# Altium schematic symbol library MCU_Microchip_SAMD.SchLib: 87 symbols (part 1 of 2)
Pins are listed as number, name and electrical type; pins without a type are passive.

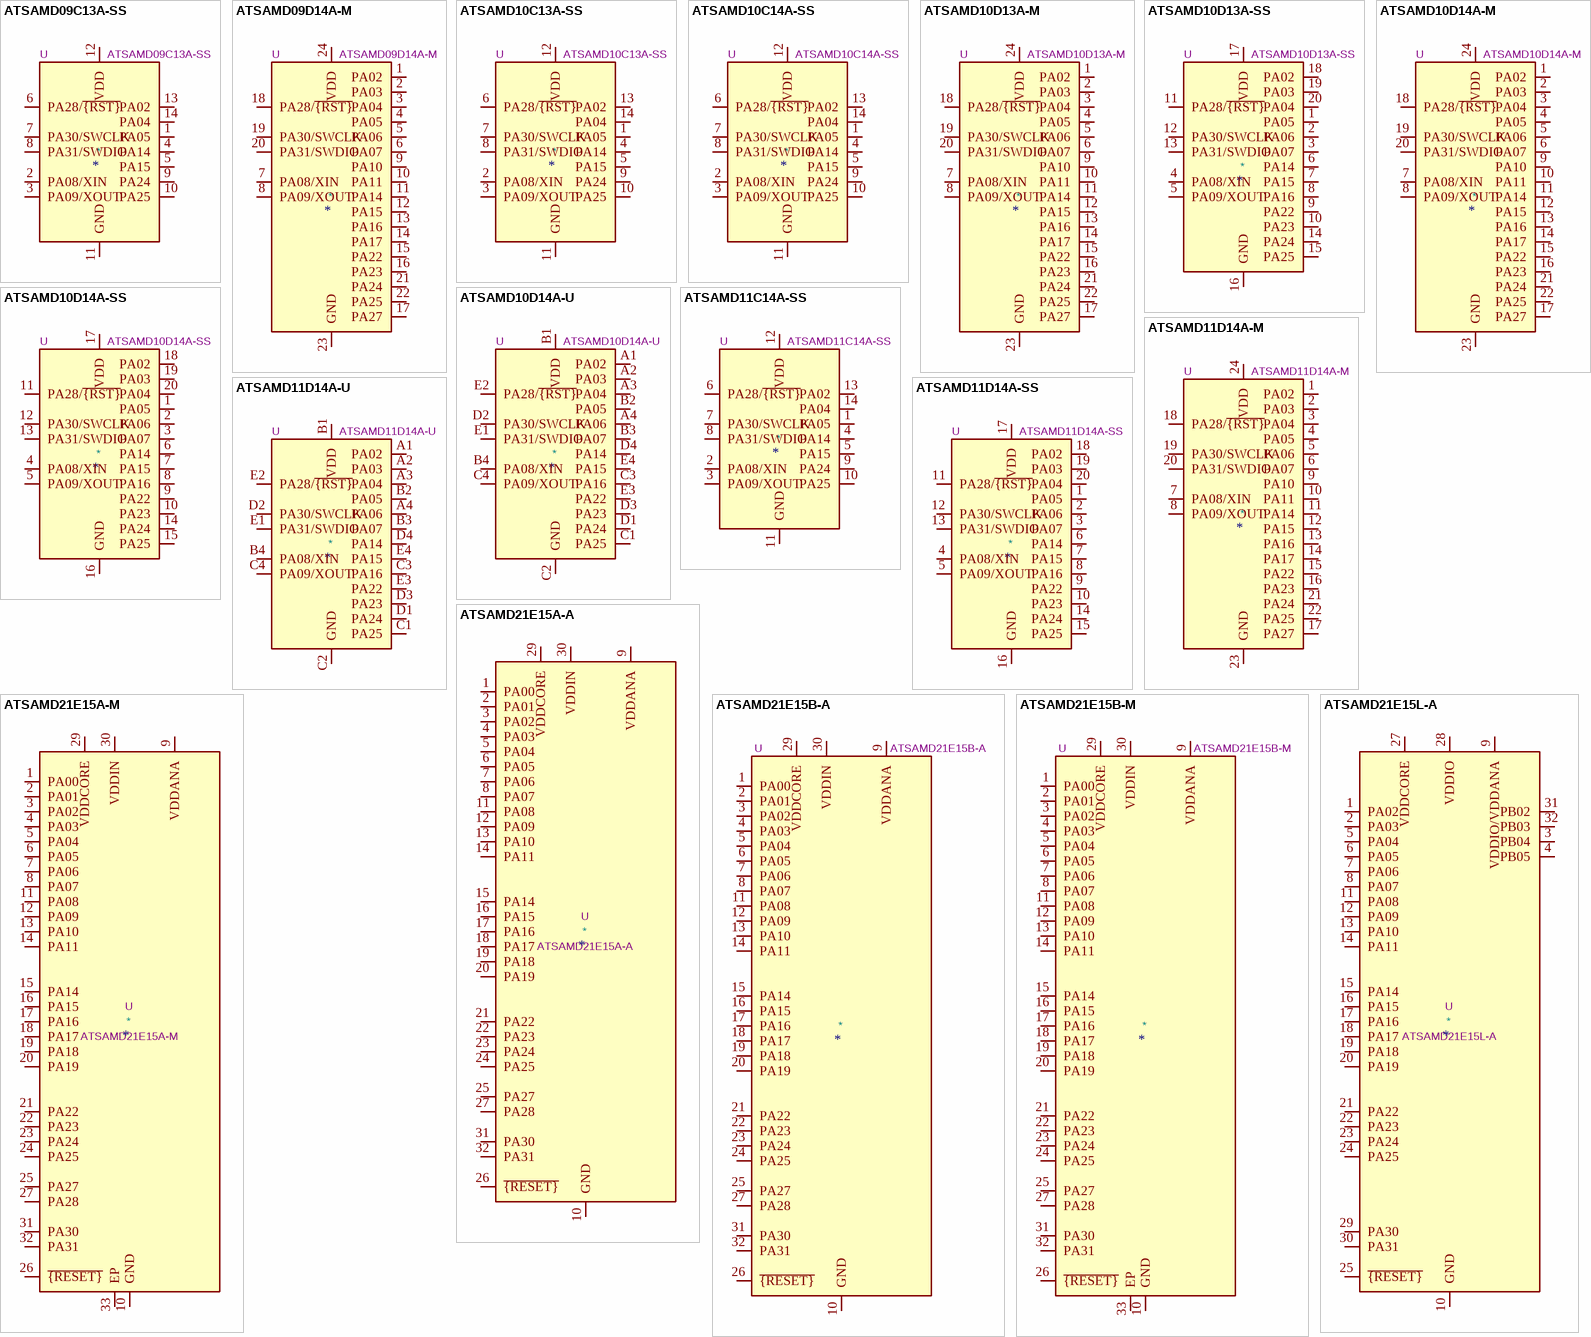
[diagram p0: symbols ATSAMD09C13A-SS to ATSAMD21E15L-A]

## ATSAMD09C13A-SS
designator *  value ATSAMD09C13A-SS  Reference: U
ki_keywords: 32-bit ARM Cortex-M0+ MCU Microcontroller; ki_description: ARM Cortex-M0+ MCU, 48MHz, 8KB Flash, 4KB RAM, 2.4-3.6V, 12 GPIO, SOIC-14; ki_fp_filters: SOIC*3.9x8.7mm*P1.27mm*; Footprint: Package_SO:SOIC-14_3.9x8.7mm_P1.27mm; Datasheet: http://ww1.microchip.com/downloads/en/DeviceDoc/Atmel-42414-SAM-D09_Datasheet.pdf
pins: 1 PA05, 2 PA08/XIN, 3 PA09/XOUT, 4 PA14, 5 PA15, 6 PA28/~{{RST}}, 7 PA30/SWCLK, 8 PA31/SWDIO, 9 PA24, 10 PA25, 11 GND, 12 VDD, 13 PA02, 14 PA04

## ATSAMD09D14A-M
designator *  value ATSAMD09D14A-M  Reference: U
ki_keywords: 32-bit ARM Cortex-M0+ MCU Microcontroller; ki_description: ARM Cortex-M0+ MCU, 48MHz, 16KB Flash, 4KB RAM, 2.4-3.6V, 22 GPIO, QFN-24; ki_fp_filters: QFN*1EP*4x4mm*P0.5mm*; Footprint: Package_DFN_QFN:QFN-24-1EP_4x4mm_P0.5mm_EP2.6x2.6mm; Datasheet: http://ww1.microchip.com/downloads/en/DeviceDoc/Atmel-42414-SAM-D09_Datasheet.pdf
pins: 1 PA02, 2 PA03, 3 PA04, 4 PA05, 5 PA06, 6 PA07, 7 PA08/XIN, 8 PA09/XOUT, 9 PA10, 10 PA11, 11 PA14, 12 PA15, 13 PA16, 14 PA17, 15 PA22, 16 PA23, 17 PA27, 18 PA28/~{{RST}}, 19 PA30/SWCLK, 20 PA31/SWDIO, 21 PA24, 22 PA25, 23 GND, 24 VDD

## ATSAMD10C13A-SS
designator *  value ATSAMD10C13A-SS  Reference: U
ki_keywords: 32-bit ARM Cortex-M0+ MCU Microcontroller; ki_description: ARM Cortex-M0+ MCU, 48MHz, 8KB Flash, 4KB RAM, 1.6-3.6V, 12 GPIO, SOIC-14; ki_fp_filters: SOIC*3.9x8.7mm*P1.27mm*; Footprint: Package_SO:SOIC-14_3.9x8.7mm_P1.27mm; Datasheet: http://ww1.microchip.com/downloads/en/DeviceDoc/Atmel-42242-SAM-D10_Datasheet.pdf
pins: 1 PA05, 2 PA08/XIN, 3 PA09/XOUT, 4 PA14, 5 PA15, 6 PA28/~{{RST}}, 7 PA30/SWCLK, 8 PA31/SWDIO, 9 PA24, 10 PA25, 11 GND, 12 VDD, 13 PA02, 14 PA04

## ATSAMD10C14A-SS
designator *  value ATSAMD10C14A-SS  Reference: U
ki_keywords: 32-bit ARM Cortex-M0+ MCU Microcontroller; ki_description: ARM Cortex-M0+ MCU, 48MHz, 16KB Flash, 4KB RAM, 1.6-3.6V, 12 GPIO, SOIC-14; ki_fp_filters: SOIC*3.9x8.7mm*P1.27mm*; Footprint: Package_SO:SOIC-14_3.9x8.7mm_P1.27mm; Datasheet: http://ww1.microchip.com/downloads/en/DeviceDoc/Atmel-42242-SAM-D10_Datasheet.pdf
pins: 1 PA05, 2 PA08/XIN, 3 PA09/XOUT, 4 PA14, 5 PA15, 6 PA28/~{{RST}}, 7 PA30/SWCLK, 8 PA31/SWDIO, 9 PA24, 10 PA25, 11 GND, 12 VDD, 13 PA02, 14 PA04

## ATSAMD10D13A-M
designator *  value ATSAMD10D13A-M  Reference: U
ki_keywords: 32-bit ARM Cortex-M0+ MCU Microcontroller; ki_description: ARM Cortex-M0+ MCU, 48MHz, 8KB Flash, 4KB RAM, 1.6-3.6V, 22 GPIO, QFN-24; ki_fp_filters: QFN*1EP*4x4mm*P0.5mm*; Footprint: Package_DFN_QFN:QFN-24-1EP_4x4mm_P0.5mm_EP2.6x2.6mm; Datasheet: http://ww1.microchip.com/downloads/en/DeviceDoc/Atmel-42242-SAM-D10_Datasheet.pdf
pins: 1 PA02, 2 PA03, 3 PA04, 4 PA05, 5 PA06, 6 PA07, 7 PA08/XIN, 8 PA09/XOUT, 9 PA10, 10 PA11, 11 PA14, 12 PA15, 13 PA16, 14 PA17, 15 PA22, 16 PA23, 17 PA27, 18 PA28/~{{RST}}, 19 PA30/SWCLK, 20 PA31/SWDIO, 21 PA24, 22 PA25, 23 GND, 24 VDD

## ATSAMD10D13A-SS
designator *  value ATSAMD10D13A-SS  Reference: U
ki_keywords: 32-bit ARM Cortex-M0+ MCU Microcontroller; ki_description: ARM Cortex-M0+ MCU, 48MHz, 8KB Flash, 4KB RAM, 1.6-3.6V, 18 GPIO, SOIC-20; ki_fp_filters: SOIC*7.5x12.8mm*P1.27mm*; Footprint: Package_SO:SOIC-20W_7.5x12.8mm_P1.27mm; Datasheet: http://ww1.microchip.com/downloads/en/DeviceDoc/Atmel-42242-SAM-D10_Datasheet.pdf
pins: 1 PA05, 2 PA06, 3 PA07, 4 PA08/XIN, 5 PA09/XOUT, 6 PA14, 7 PA15, 8 PA16, 9 PA22, 10 PA23, 11 PA28/~{{RST}}, 12 PA30/SWCLK, 13 PA31/SWDIO, 14 PA24, 15 PA25, 16 GND, 17 VDD, 18 PA02, 19 PA03, 20 PA04

## ATSAMD10D14A-M
designator *  value ATSAMD10D14A-M  Reference: U
ki_keywords: 32-bit ARM Cortex-M0+ MCU Microcontroller; ki_description: ARM Cortex-M0+ MCU, 48MHz, 16KB Flash, 4KB RAM, 1.6-3.6V, 22 GPIO, QFN-24; ki_fp_filters: QFN*1EP*4x4mm*P0.5mm*; Footprint: Package_DFN_QFN:QFN-24-1EP_4x4mm_P0.5mm_EP2.6x2.6mm; Datasheet: http://ww1.microchip.com/downloads/en/DeviceDoc/Atmel-42242-SAM-D10_Datasheet.pdf
pins: 1 PA02, 2 PA03, 3 PA04, 4 PA05, 5 PA06, 6 PA07, 7 PA08/XIN, 8 PA09/XOUT, 9 PA10, 10 PA11, 11 PA14, 12 PA15, 13 PA16, 14 PA17, 15 PA22, 16 PA23, 17 PA27, 18 PA28/~{{RST}}, 19 PA30/SWCLK, 20 PA31/SWDIO, 21 PA24, 22 PA25, 23 GND, 24 VDD

## ATSAMD10D14A-SS
designator *  value ATSAMD10D14A-SS  Reference: U
ki_keywords: 32-bit ARM Cortex-M0+ MCU Microcontroller; ki_description: ARM Cortex-M0+ MCU, 48MHz, 16KB Flash, 4KB RAM, 1.6-3.6V, 18 GPIO, SOIC-20; ki_fp_filters: SOIC*7.5x12.8mm*P1.27mm*; Footprint: Package_SO:SOIC-20W_7.5x12.8mm_P1.27mm; Datasheet: http://ww1.microchip.com/downloads/en/DeviceDoc/Atmel-42242-SAM-D10_Datasheet.pdf
pins: 1 PA05, 2 PA06, 3 PA07, 4 PA08/XIN, 5 PA09/XOUT, 6 PA14, 7 PA15, 8 PA16, 9 PA22, 10 PA23, 11 PA28/~{{RST}}, 12 PA30/SWCLK, 13 PA31/SWDIO, 14 PA24, 15 PA25, 16 GND, 17 VDD, 18 PA02, 19 PA03, 20 PA04

## ATSAMD10D14A-U
designator *  value ATSAMD10D14A-U  Reference: U
ki_keywords: 32-bit ARM Cortex-M0+ MCU Microcontroller; ki_description: ARM Cortex-M0+ MCU, 48MHz, 16KB Flash, 4KB RAM, 1.6-3.6V, 18 GPIO, WLCSP-20; ki_fp_filters: WLCSP*1.934x2.434mm*Layout4x5*P0.4mm*; Footprint: Package_CSP:WLCSP-20_1.934x2.434mm_Layout4x5_P0.4mm; Datasheet: http://ww1.microchip.com/downloads/en/DeviceDoc/Atmel-42242-SAM-D10_Datasheet.pdf
pins: A1 PA02, A2 PA03, A3 PA04, A4 PA06, B1 VDD, B2 PA05, B3 PA07, B4 PA08/XIN, C1 PA25, C2 GND, C3 PA16, C4 PA09/XOUT, D1 PA24, D2 PA30/SWCLK, D3 PA23, D4 PA14, E1 PA31/SWDIO, E2 PA28/~{{RST}}, E3 PA22, E4 PA15

## ATSAMD11C14A-SS
designator *  value ATSAMD11C14A-SS  Reference: U
ki_keywords: 32-bit ARM Cortex-M0+ MCU Microcontroller; ki_description: ARM Cortex-M0+ MCU, 48MHz, 16KB Flash, 4KB RAM, 1.6-3.6V, 18 GPIO, SOIC-14; ki_fp_filters: SOIC*3.9x8.7mm*P1.27mm*; Footprint: Package_SO:SOIC-14_3.9x8.7mm_P1.27mm; Datasheet: http://ww1.microchip.com/downloads/en/DeviceDoc/Atmel-42363-SAM-D11_Datasheet.pdf
pins: 1 PA05, 2 PA08/XIN, 3 PA09/XOUT, 4 PA14, 5 PA15, 6 PA28/~{{RST}}, 7 PA30/SWCLK, 8 PA31/SWDIO, 9 PA24, 10 PA25, 11 GND, 12 VDD, 13 PA02, 14 PA04

## ATSAMD11D14A-M
designator *  value ATSAMD11D14A-M  Reference: U
ki_keywords: 32-bit ARM Cortex-M0+ MCU Microcontroller; ki_description: ARM Cortex-M0+ MCU, 48MHz, 16KB Flash, 4KB RAM, 1.6-3.6V, 22 GPIO, QFN-24; ki_fp_filters: QFN*1EP*4x4mm*P0.5mm*; Footprint: Package_DFN_QFN:QFN-24-1EP_4x4mm_P0.5mm_EP2.6x2.6mm; Datasheet: http://ww1.microchip.com/downloads/en/DeviceDoc/Atmel-42363-SAM-D11_Datasheet.pdf
pins: 1 PA02, 2 PA03, 3 PA04, 4 PA05, 5 PA06, 6 PA07, 7 PA08/XIN, 8 PA09/XOUT, 9 PA10, 10 PA11, 11 PA14, 12 PA15, 13 PA16, 14 PA17, 15 PA22, 16 PA23, 17 PA27, 18 PA28/~{{RST}}, 19 PA30/SWCLK, 20 PA31/SWDIO, 21 PA24, 22 PA25, 23 GND, 24 VDD

## ATSAMD11D14A-SS
designator *  value ATSAMD11D14A-SS  Reference: U
ki_keywords: 32-bit ARM Cortex-M0+ MCU Microcontroller; ki_description: ARM Cortex-M0+ MCU, 48MHz, 16KB Flash, 4KB RAM, 1.6-3.6V, 18 GPIO, SOIC-20; ki_fp_filters: SOIC*7.5x12.8mm*P1.27mm*; Footprint: Package_SO:SOIC-20W_7.5x12.8mm_P1.27mm; Datasheet: http://ww1.microchip.com/downloads/en/DeviceDoc/Atmel-42363-SAM-D11_Datasheet.pdf
pins: 1 PA05, 2 PA06, 3 PA07, 4 PA08/XIN, 5 PA09/XOUT, 6 PA14, 7 PA15, 8 PA16, 9 PA22, 10 PA23, 11 PA28/~{{RST}}, 12 PA30/SWCLK, 13 PA31/SWDIO, 14 PA24, 15 PA25, 16 GND, 17 VDD, 18 PA02, 19 PA03, 20 PA04

## ATSAMD11D14A-U
designator *  value ATSAMD11D14A-U  Reference: U
ki_keywords: 32-bit ARM Cortex-M0+ MCU Microcontroller; ki_description: ARM Cortex-M0+ MCU, 48MHz, 16KB Flash, 4KB RAM, 1.6-3.6V, 18 GPIO, WLCSP-20; ki_fp_filters: WLCSP*1.934x2.434mm*Layout4x5*P0.4mm*; Footprint: Package_CSP:WLCSP-20_1.934x2.434mm_Layout4x5_P0.4mm; Datasheet: http://ww1.microchip.com/downloads/en/DeviceDoc/Atmel-42363-SAM-D11_Datasheet.pdf
pins: A1 PA02, A2 PA03, A3 PA04, A4 PA06, B1 VDD, B2 PA05, B3 PA07, B4 PA08/XIN, C1 PA25, C2 GND, C3 PA16, C4 PA09/XOUT, D1 PA24, D2 PA30/SWCLK, D3 PA23, D4 PA14, E1 PA31/SWDIO, E2 PA28/~{{RST}}, E3 PA22, E4 PA15

## ATSAMD21E15A-A
designator *  value ATSAMD21E15A-A  Reference: U
ki_keywords: 32-bit ARM Cortex-M0+ MCU Microcontroller; ki_description: SAM D21 Microchip SMART ARM-based Flash MCU, 48Mhz, 32K Flash, 4K SRAM, TQFP-32; ki_fp_filters: TQFP*7x7mm*P0.8mm*; Footprint: Package_QFP:TQFP-32_7x7mm_P0.8mm; Datasheet: http://ww1.microchip.com/downloads/en/DeviceDoc/SAM_D21_DA1_Family_Data%20Sheet_DS40001882E.pdf
pins: 1 PA00, 2 PA01, 3 PA02, 4 PA03, 5 PA04, 6 PA05, 7 PA06, 8 PA07, 9 VDDANA, 10 GND, 11 PA08, 12 PA09, 13 PA10, 14 PA11, 15 PA14, 16 PA15, 17 PA16, 18 PA17, 19 PA18, 20 PA19, 21 PA22, 22 PA23, 23 PA24, 24 PA25, 25 PA27, 26 ~{{RESET}}, 27 PA28, 28 GND hidden, 29 VDDCORE, 30 VDDIN, 31 PA30, 32 PA31

## ATSAMD21E15A-M
designator *  value ATSAMD21E15A-M  Reference: U
ki_keywords: 32-bit ARM Cortex-M0+ MCU Microcontroller; ki_description: SAM D21 Microchip SMART ARM-based Flash MCU, 48Mhz, 32K Flash, 4K SRAM, QFN-32; ki_fp_filters: QFN*5x5mm*P0.5mm*; Footprint: Package_DFN_QFN:QFN-32-1EP_5x5mm_P0.5mm_EP3.6x3.6mm; Datasheet: http://ww1.microchip.com/downloads/en/DeviceDoc/SAM_D21_DA1_Family_Data%20Sheet_DS40001882E.pdf
pins: 1 PA00, 2 PA01, 3 PA02, 4 PA03, 5 PA04, 6 PA05, 7 PA06, 8 PA07, 9 VDDANA, 10 GND, 11 PA08, 12 PA09, 13 PA10, 14 PA11, 15 PA14, 16 PA15, 17 PA16, 18 PA17, 19 PA18, 20 PA19, 21 PA22, 22 PA23, 23 PA24, 24 PA25, 25 PA27, 26 ~{{RESET}}, 27 PA28, 28 GND hidden, 29 VDDCORE, 30 VDDIN, 31 PA30, 32 PA31, 33 EP

## ATSAMD21E15B-A
designator *  value ATSAMD21E15B-A  Reference: U
ki_keywords: 32-bit ARM Cortex-M0+ MCU Microcontroller; ki_description: SAM D21 Microchip SMART ARM-based Flash MCU, 48Mhz, 32K Flash w/ 1K RWW, 4K SRAM, TQFP-32; ki_fp_filters: TQFP*7x7mm*P0.8mm*; Footprint: Package_QFP:TQFP-32_7x7mm_P0.8mm; Datasheet: http://ww1.microchip.com/downloads/en/DeviceDoc/SAM_D21_DA1_Family_Data%20Sheet_DS40001882E.pdf
pins: 1 PA00, 2 PA01, 3 PA02, 4 PA03, 5 PA04, 6 PA05, 7 PA06, 8 PA07, 9 VDDANA, 10 GND, 11 PA08, 12 PA09, 13 PA10, 14 PA11, 15 PA14, 16 PA15, 17 PA16, 18 PA17, 19 PA18, 20 PA19, 21 PA22, 22 PA23, 23 PA24, 24 PA25, 25 PA27, 26 ~{{RESET}}, 27 PA28, 28 GND hidden, 29 VDDCORE, 30 VDDIN, 31 PA30, 32 PA31

## ATSAMD21E15B-M
designator *  value ATSAMD21E15B-M  Reference: U
ki_keywords: 32-bit ARM Cortex-M0+ MCU Microcontroller; ki_description: SAM D21 Microchip SMART ARM-based Flash MCU, 48Mhz, 32K Flash w/ 1K RWW, 4K SRAM, QFN-32; ki_fp_filters: QFN*5x5mm*P0.5mm*; Footprint: Package_DFN_QFN:QFN-32-1EP_5x5mm_P0.5mm_EP3.6x3.6mm; Datasheet: http://ww1.microchip.com/downloads/en/DeviceDoc/SAM_D21_DA1_Family_Data%20Sheet_DS40001882E.pdf
pins: 1 PA00, 2 PA01, 3 PA02, 4 PA03, 5 PA04, 6 PA05, 7 PA06, 8 PA07, 9 VDDANA, 10 GND, 11 PA08, 12 PA09, 13 PA10, 14 PA11, 15 PA14, 16 PA15, 17 PA16, 18 PA17, 19 PA18, 20 PA19, 21 PA22, 22 PA23, 23 PA24, 24 PA25, 25 PA27, 26 ~{{RESET}}, 27 PA28, 28 GND hidden, 29 VDDCORE, 30 VDDIN, 31 PA30, 32 PA31, 33 EP

## ATSAMD21E15L-A
designator *  value ATSAMD21E15L-A  Reference: U
ki_keywords: 32-bit ARM Cortex-M0+ MCU Microcontroller; ki_description: SAM D21 Microchip SMART ARM-based Flash MCU, 48Mhz, 32K Flash w/ 1K RWW, 4K SRAM, Pinout Optimized for Analog & PWM, TQFP-32; ki_fp_filters: TQFP*7x7mm*P0.8mm*; Footprint: Package_QFP:TQFP-32_7x7mm_P0.8mm; Datasheet: http://ww1.microchip.com/downloads/en/DeviceDoc/SAM_D21_DA1_Family_Data%20Sheet_DS40001882E.pdf
pins: 1 PA02, 2 PA03, 3 PB04, 4 PB05, 5 PA04, 6 PA05, 7 PA06, 8 PA07, 9 VDDIO/VDDANA, 10 GND, 11 PA08, 12 PA09, 13 PA10, 14 PA11, 15 PA14, 16 PA15, 17 PA16, 18 PA17, 19 PA18, 20 PA19, 21 PA22, 22 PA23, 23 PA24, 24 PA25, 25 ~{{RESET}}, 26 GND hidden, 27 VDDCORE, 28 VDDIO, 29 PA30, 30 PA31, 31 PB02, 32 PB03

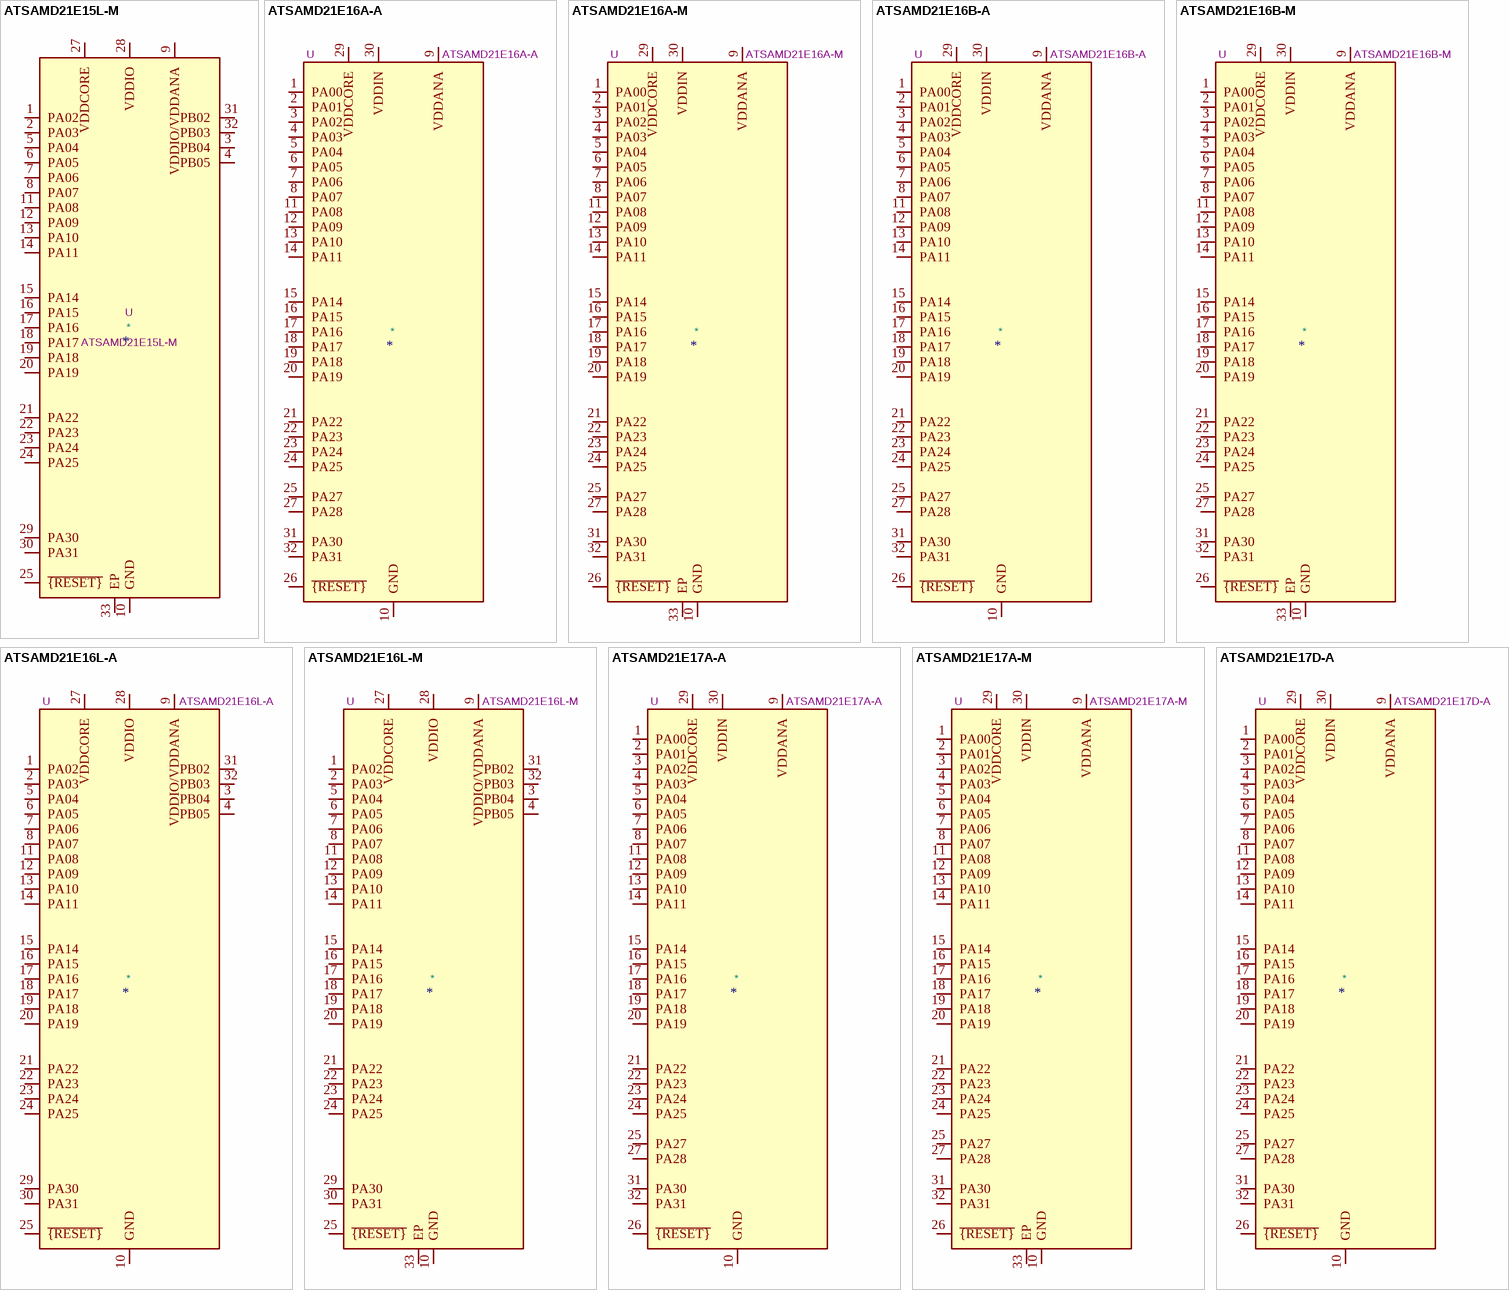
[diagram p1: symbols ATSAMD21E15L-M to ATSAMD21E17D-A]

## ATSAMD21E15L-M
designator *  value ATSAMD21E15L-M  Reference: U
ki_keywords: 32-bit ARM Cortex-M0+ MCU Microcontroller; ki_description: SAM D21 Microchip SMART ARM-based Flash MCU, 48Mhz, 32K Flash w/ 1K RWW, 4K SRAM, Pinout Optimized for Analog & PWM, QFN-32; ki_fp_filters: QFN*5x5mm*P0.5mm*; Footprint: Package_DFN_QFN:QFN-32-1EP_5x5mm_P0.5mm_EP3.6x3.6mm; Datasheet: http://ww1.microchip.com/downloads/en/DeviceDoc/SAM_D21_DA1_Family_Data%20Sheet_DS40001882E.pdf
pins: 1 PA02, 2 PA03, 3 PB04, 4 PB05, 5 PA04, 6 PA05, 7 PA06, 8 PA07, 9 VDDIO/VDDANA, 10 GND, 11 PA08, 12 PA09, 13 PA10, 14 PA11, 15 PA14, 16 PA15, 17 PA16, 18 PA17, 19 PA18, 20 PA19, 21 PA22, 22 PA23, 23 PA24, 24 PA25, 25 ~{{RESET}}, 26 GND hidden, 27 VDDCORE, 28 VDDIO, 29 PA30, 30 PA31, 31 PB02, 32 PB03, 33 EP

## ATSAMD21E16A-A
designator *  value ATSAMD21E16A-A  Reference: U
ki_keywords: 32-bit ARM Cortex-M0+ MCU Microcontroller; ki_description: SAM D21 Microchip SMART ARM-based Flash MCU, 48Mhz, 64K Flash, 8K SRAM, TQFP-32; ki_fp_filters: TQFP*7x7mm*P0.8mm*; Footprint: Package_QFP:TQFP-32_7x7mm_P0.8mm; Datasheet: http://ww1.microchip.com/downloads/en/DeviceDoc/SAM_D21_DA1_Family_Data%20Sheet_DS40001882E.pdf
pins: 1 PA00, 2 PA01, 3 PA02, 4 PA03, 5 PA04, 6 PA05, 7 PA06, 8 PA07, 9 VDDANA, 10 GND, 11 PA08, 12 PA09, 13 PA10, 14 PA11, 15 PA14, 16 PA15, 17 PA16, 18 PA17, 19 PA18, 20 PA19, 21 PA22, 22 PA23, 23 PA24, 24 PA25, 25 PA27, 26 ~{{RESET}}, 27 PA28, 28 GND hidden, 29 VDDCORE, 30 VDDIN, 31 PA30, 32 PA31

## ATSAMD21E16A-M
designator *  value ATSAMD21E16A-M  Reference: U
ki_keywords: 32-bit ARM Cortex-M0+ MCU Microcontroller; ki_description: SAM D21 Microchip SMART ARM-based Flash MCU, 48Mhz, 64K Flash, 8K SRAM, QFN-32; ki_fp_filters: QFN*5x5mm*P0.5mm*; Footprint: Package_DFN_QFN:QFN-32-1EP_5x5mm_P0.5mm_EP3.6x3.6mm; Datasheet: http://ww1.microchip.com/downloads/en/DeviceDoc/SAM_D21_DA1_Family_Data%20Sheet_DS40001882E.pdf
pins: 1 PA00, 2 PA01, 3 PA02, 4 PA03, 5 PA04, 6 PA05, 7 PA06, 8 PA07, 9 VDDANA, 10 GND, 11 PA08, 12 PA09, 13 PA10, 14 PA11, 15 PA14, 16 PA15, 17 PA16, 18 PA17, 19 PA18, 20 PA19, 21 PA22, 22 PA23, 23 PA24, 24 PA25, 25 PA27, 26 ~{{RESET}}, 27 PA28, 28 GND hidden, 29 VDDCORE, 30 VDDIN, 31 PA30, 32 PA31, 33 EP

## ATSAMD21E16B-A
designator *  value ATSAMD21E16B-A  Reference: U
ki_keywords: 32-bit ARM Cortex-M0+ MCU Microcontroller; ki_description: SAM D21 Microchip SMART ARM-based Flash MCU, 48Mhz, 64K Flash w/ 2K RWW, 8K SRAM, TQFP-32; ki_fp_filters: TQFP*7x7mm*P0.8mm*; Footprint: Package_QFP:TQFP-32_7x7mm_P0.8mm; Datasheet: http://ww1.microchip.com/downloads/en/DeviceDoc/SAM_D21_DA1_Family_Data%20Sheet_DS40001882E.pdf
pins: 1 PA00, 2 PA01, 3 PA02, 4 PA03, 5 PA04, 6 PA05, 7 PA06, 8 PA07, 9 VDDANA, 10 GND, 11 PA08, 12 PA09, 13 PA10, 14 PA11, 15 PA14, 16 PA15, 17 PA16, 18 PA17, 19 PA18, 20 PA19, 21 PA22, 22 PA23, 23 PA24, 24 PA25, 25 PA27, 26 ~{{RESET}}, 27 PA28, 28 GND hidden, 29 VDDCORE, 30 VDDIN, 31 PA30, 32 PA31

## ATSAMD21E16B-M
designator *  value ATSAMD21E16B-M  Reference: U
ki_keywords: 32-bit ARM Cortex-M0+ MCU Microcontroller; ki_description: SAM D21 Microchip SMART ARM-based Flash MCU, 48Mhz, 64K Flash w/ 2K RWW, 8K SRAM, QFN-32; ki_fp_filters: QFN*5x5mm*P0.5mm*; Footprint: Package_DFN_QFN:QFN-32-1EP_5x5mm_P0.5mm_EP3.6x3.6mm; Datasheet: http://ww1.microchip.com/downloads/en/DeviceDoc/SAM_D21_DA1_Family_Data%20Sheet_DS40001882E.pdf
pins: 1 PA00, 2 PA01, 3 PA02, 4 PA03, 5 PA04, 6 PA05, 7 PA06, 8 PA07, 9 VDDANA, 10 GND, 11 PA08, 12 PA09, 13 PA10, 14 PA11, 15 PA14, 16 PA15, 17 PA16, 18 PA17, 19 PA18, 20 PA19, 21 PA22, 22 PA23, 23 PA24, 24 PA25, 25 PA27, 26 ~{{RESET}}, 27 PA28, 28 GND hidden, 29 VDDCORE, 30 VDDIN, 31 PA30, 32 PA31, 33 EP

## ATSAMD21E16L-A
designator *  value ATSAMD21E16L-A  Reference: U
ki_keywords: 32-bit ARM Cortex-M0+ MCU Microcontroller; ki_description: SAM D21 Microchip SMART ARM-based Flash MCU, 48Mhz, 64K Flash w/ 2K RWW, 8K SRAM, Pinout Optimized for Analog & PWM, TQFP-32; ki_fp_filters: TQFP*7x7mm*P0.8mm*; Footprint: Package_QFP:TQFP-32_7x7mm_P0.8mm; Datasheet: http://ww1.microchip.com/downloads/en/DeviceDoc/SAM_D21_DA1_Family_Data%20Sheet_DS40001882E.pdf
pins: 1 PA02, 2 PA03, 3 PB04, 4 PB05, 5 PA04, 6 PA05, 7 PA06, 8 PA07, 9 VDDIO/VDDANA, 10 GND, 11 PA08, 12 PA09, 13 PA10, 14 PA11, 15 PA14, 16 PA15, 17 PA16, 18 PA17, 19 PA18, 20 PA19, 21 PA22, 22 PA23, 23 PA24, 24 PA25, 25 ~{{RESET}}, 26 GND hidden, 27 VDDCORE, 28 VDDIO, 29 PA30, 30 PA31, 31 PB02, 32 PB03

## ATSAMD21E16L-M
designator *  value ATSAMD21E16L-M  Reference: U
ki_keywords: 32-bit ARM Cortex-M0+ MCU Microcontroller; ki_description: SAM D21 Microchip SMART ARM-based Flash MCU, 48Mhz, 64K Flash w/ 2K RWW, 8K SRAM, Pinout Optimized for Analog & PWM, QFN-32; ki_fp_filters: QFN*5x5mm*P0.5mm*; Footprint: Package_DFN_QFN:QFN-32-1EP_5x5mm_P0.5mm_EP3.6x3.6mm; Datasheet: http://ww1.microchip.com/downloads/en/DeviceDoc/SAM_D21_DA1_Family_Data%20Sheet_DS40001882E.pdf
pins: 1 PA02, 2 PA03, 3 PB04, 4 PB05, 5 PA04, 6 PA05, 7 PA06, 8 PA07, 9 VDDIO/VDDANA, 10 GND, 11 PA08, 12 PA09, 13 PA10, 14 PA11, 15 PA14, 16 PA15, 17 PA16, 18 PA17, 19 PA18, 20 PA19, 21 PA22, 22 PA23, 23 PA24, 24 PA25, 25 ~{{RESET}}, 26 GND hidden, 27 VDDCORE, 28 VDDIO, 29 PA30, 30 PA31, 31 PB02, 32 PB03, 33 EP

## ATSAMD21E17A-A
designator *  value ATSAMD21E17A-A  Reference: U
ki_keywords: 32-bit ARM Cortex-M0+ MCU Microcontroller; ki_description: SAM D21 Microchip SMART ARM-based Flash MCU, 48Mhz, 128K Flash, 16K SRAM, TQFP-32; ki_fp_filters: TQFP*7x7mm*P0.8mm*; Footprint: Package_QFP:TQFP-32_7x7mm_P0.8mm; Datasheet: http://ww1.microchip.com/downloads/en/DeviceDoc/SAM_D21_DA1_Family_Data%20Sheet_DS40001882E.pdf
pins: 1 PA00, 2 PA01, 3 PA02, 4 PA03, 5 PA04, 6 PA05, 7 PA06, 8 PA07, 9 VDDANA, 10 GND, 11 PA08, 12 PA09, 13 PA10, 14 PA11, 15 PA14, 16 PA15, 17 PA16, 18 PA17, 19 PA18, 20 PA19, 21 PA22, 22 PA23, 23 PA24, 24 PA25, 25 PA27, 26 ~{{RESET}}, 27 PA28, 28 GND hidden, 29 VDDCORE, 30 VDDIN, 31 PA30, 32 PA31

## ATSAMD21E17A-M
designator *  value ATSAMD21E17A-M  Reference: U
ki_keywords: 32-bit ARM Cortex-M0+ MCU Microcontroller; ki_description: SAM D21 Microchip SMART ARM-based Flash MCU, 48Mhz, 128K Flash, 16K SRAM, QFN-32; ki_fp_filters: QFN*5x5mm*P0.5mm*; Footprint: Package_DFN_QFN:QFN-32-1EP_5x5mm_P0.5mm_EP3.6x3.6mm; Datasheet: http://ww1.microchip.com/downloads/en/DeviceDoc/SAM_D21_DA1_Family_Data%20Sheet_DS40001882E.pdf
pins: 1 PA00, 2 PA01, 3 PA02, 4 PA03, 5 PA04, 6 PA05, 7 PA06, 8 PA07, 9 VDDANA, 10 GND, 11 PA08, 12 PA09, 13 PA10, 14 PA11, 15 PA14, 16 PA15, 17 PA16, 18 PA17, 19 PA18, 20 PA19, 21 PA22, 22 PA23, 23 PA24, 24 PA25, 25 PA27, 26 ~{{RESET}}, 27 PA28, 28 GND hidden, 29 VDDCORE, 30 VDDIN, 31 PA30, 32 PA31, 33 EP

## ATSAMD21E17D-A
designator *  value ATSAMD21E17D-A  Reference: U
ki_keywords: 32-bit ARM Cortex-M0+ MCU Microcontroller; ki_description: SAM D21 Microchip SMART ARM-based Flash MCU, 48Mhz, 128K Flash w/ 4K RWW, 16K SRAM, TQFP-32; ki_fp_filters: TQFP*7x7mm*P0.8mm*; Footprint: Package_QFP:TQFP-32_7x7mm_P0.8mm; Datasheet: http://ww1.microchip.com/downloads/en/DeviceDoc/SAM_D21_DA1_Family_Data%20Sheet_DS40001882E.pdf
pins: 1 PA00, 2 PA01, 3 PA02, 4 PA03, 5 PA04, 6 PA05, 7 PA06, 8 PA07, 9 VDDANA, 10 GND, 11 PA08, 12 PA09, 13 PA10, 14 PA11, 15 PA14, 16 PA15, 17 PA16, 18 PA17, 19 PA18, 20 PA19, 21 PA22, 22 PA23, 23 PA24, 24 PA25, 25 PA27, 26 ~{{RESET}}, 27 PA28, 28 GND hidden, 29 VDDCORE, 30 VDDIN, 31 PA30, 32 PA31

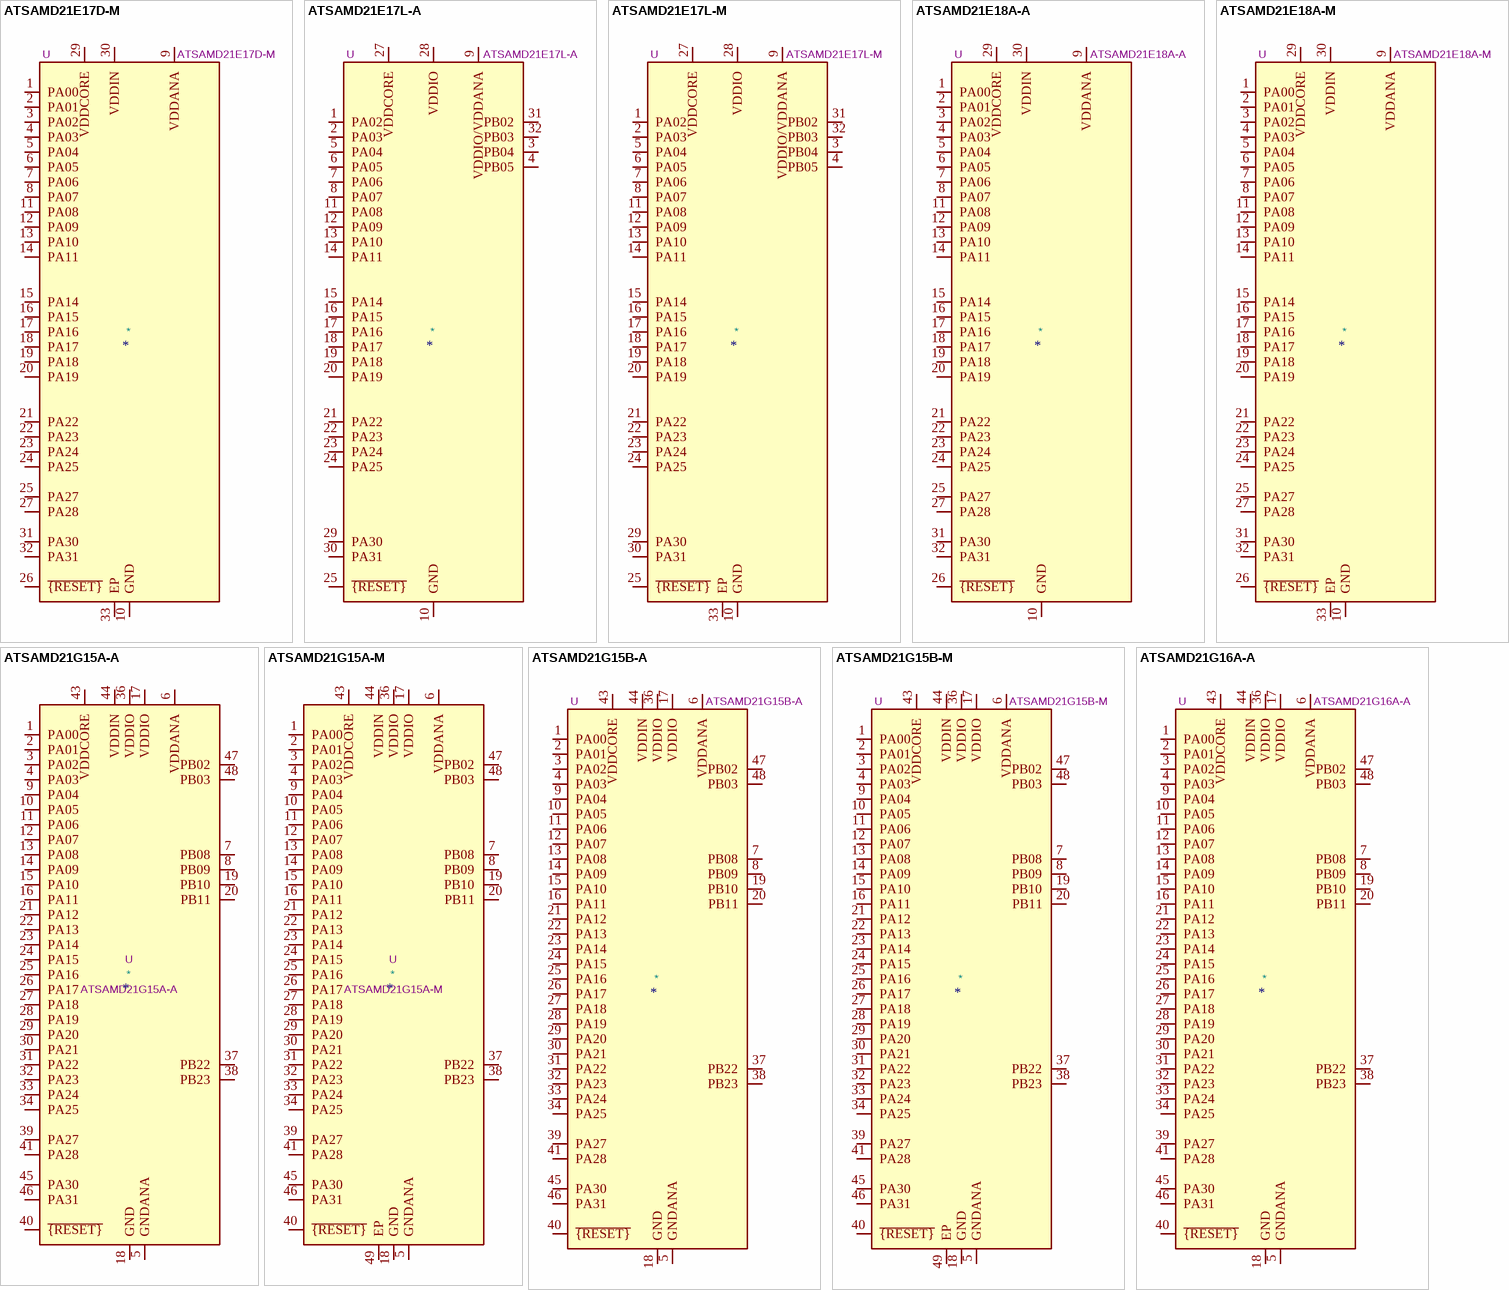
[diagram p2: symbols ATSAMD21E17D-M to ATSAMD21G16A-A]

## ATSAMD21E17D-M
designator *  value ATSAMD21E17D-M  Reference: U
ki_keywords: 32-bit ARM Cortex-M0+ MCU Microcontroller; ki_description: SAM D21 Microchip SMART ARM-based Flash MCU, 48Mhz, 128K Flash w/ 4K RWW, 16K SRAM, QFN-32; ki_fp_filters: QFN*5x5mm*P0.5mm*; Footprint: Package_DFN_QFN:QFN-32-1EP_5x5mm_P0.5mm_EP3.6x3.6mm; Datasheet: http://ww1.microchip.com/downloads/en/DeviceDoc/SAM_D21_DA1_Family_Data%20Sheet_DS40001882E.pdf
pins: 1 PA00, 2 PA01, 3 PA02, 4 PA03, 5 PA04, 6 PA05, 7 PA06, 8 PA07, 9 VDDANA, 10 GND, 11 PA08, 12 PA09, 13 PA10, 14 PA11, 15 PA14, 16 PA15, 17 PA16, 18 PA17, 19 PA18, 20 PA19, 21 PA22, 22 PA23, 23 PA24, 24 PA25, 25 PA27, 26 ~{{RESET}}, 27 PA28, 28 GND hidden, 29 VDDCORE, 30 VDDIN, 31 PA30, 32 PA31, 33 EP

## ATSAMD21E17L-A
designator *  value ATSAMD21E17L-A  Reference: U
ki_keywords: 32-bit ARM Cortex-M0+ MCU Microcontroller; ki_description: SAM D21 Microchip SMART ARM-based Flash MCU, 48Mhz, 128K Flash w/ 4K RWW, 16K SRAM, Pinout Optimized for Analog & PWM, TQFP-32; ki_fp_filters: TQFP*7x7mm*P0.8mm*; Footprint: Package_QFP:TQFP-32_7x7mm_P0.8mm; Datasheet: http://ww1.microchip.com/downloads/en/DeviceDoc/SAM_D21_DA1_Family_Data%20Sheet_DS40001882E.pdf
pins: 1 PA02, 2 PA03, 3 PB04, 4 PB05, 5 PA04, 6 PA05, 7 PA06, 8 PA07, 9 VDDIO/VDDANA, 10 GND, 11 PA08, 12 PA09, 13 PA10, 14 PA11, 15 PA14, 16 PA15, 17 PA16, 18 PA17, 19 PA18, 20 PA19, 21 PA22, 22 PA23, 23 PA24, 24 PA25, 25 ~{{RESET}}, 26 GND hidden, 27 VDDCORE, 28 VDDIO, 29 PA30, 30 PA31, 31 PB02, 32 PB03

## ATSAMD21E17L-M
designator *  value ATSAMD21E17L-M  Reference: U
ki_keywords: 32-bit ARM Cortex-M0+ MCU Microcontroller; ki_description: SAM D21 Microchip SMART ARM-based Flash MCU, 48Mhz, 128K Flash w/ 4K RWW, 16K SRAM, Pinout Optimized for Analog & PWM, QFN-32; ki_fp_filters: QFN*5x5mm*P0.5mm*; Footprint: Package_DFN_QFN:QFN-32-1EP_5x5mm_P0.5mm_EP3.6x3.6mm; Datasheet: http://ww1.microchip.com/downloads/en/DeviceDoc/SAM_D21_DA1_Family_Data%20Sheet_DS40001882E.pdf
pins: 1 PA02, 2 PA03, 3 PB04, 4 PB05, 5 PA04, 6 PA05, 7 PA06, 8 PA07, 9 VDDIO/VDDANA, 10 GND, 11 PA08, 12 PA09, 13 PA10, 14 PA11, 15 PA14, 16 PA15, 17 PA16, 18 PA17, 19 PA18, 20 PA19, 21 PA22, 22 PA23, 23 PA24, 24 PA25, 25 ~{{RESET}}, 26 GND hidden, 27 VDDCORE, 28 VDDIO, 29 PA30, 30 PA31, 31 PB02, 32 PB03, 33 EP

## ATSAMD21E18A-A
designator *  value ATSAMD21E18A-A  Reference: U
ki_keywords: 32-bit ARM Cortex-M0+ MCU Microcontroller; ki_description: SAM D21 Microchip SMART ARM-based Flash MCU, 48Mhz, 256K Flash, 32K SRAM, TQFP-32; ki_fp_filters: TQFP*7x7mm*P0.8mm*; Footprint: Package_QFP:TQFP-32_7x7mm_P0.8mm; Datasheet: http://ww1.microchip.com/downloads/en/DeviceDoc/SAM_D21_DA1_Family_Data%20Sheet_DS40001882E.pdf
pins: 1 PA00, 2 PA01, 3 PA02, 4 PA03, 5 PA04, 6 PA05, 7 PA06, 8 PA07, 9 VDDANA, 10 GND, 11 PA08, 12 PA09, 13 PA10, 14 PA11, 15 PA14, 16 PA15, 17 PA16, 18 PA17, 19 PA18, 20 PA19, 21 PA22, 22 PA23, 23 PA24, 24 PA25, 25 PA27, 26 ~{{RESET}}, 27 PA28, 28 GND hidden, 29 VDDCORE, 30 VDDIN, 31 PA30, 32 PA31

## ATSAMD21E18A-M
designator *  value ATSAMD21E18A-M  Reference: U
ki_keywords: 32-bit ARM Cortex-M0+ MCU Microcontroller; ki_description: SAM D21 Microchip SMART ARM-based Flash MCU, 48Mhz, 256K Flash, 32K SRAM, QFN-32; ki_fp_filters: QFN*5x5mm*P0.5mm*; Footprint: Package_DFN_QFN:QFN-32-1EP_5x5mm_P0.5mm_EP3.6x3.6mm; Datasheet: http://ww1.microchip.com/downloads/en/DeviceDoc/SAM_D21_DA1_Family_Data%20Sheet_DS40001882E.pdf
pins: 1 PA00, 2 PA01, 3 PA02, 4 PA03, 5 PA04, 6 PA05, 7 PA06, 8 PA07, 9 VDDANA, 10 GND, 11 PA08, 12 PA09, 13 PA10, 14 PA11, 15 PA14, 16 PA15, 17 PA16, 18 PA17, 19 PA18, 20 PA19, 21 PA22, 22 PA23, 23 PA24, 24 PA25, 25 PA27, 26 ~{{RESET}}, 27 PA28, 28 GND hidden, 29 VDDCORE, 30 VDDIN, 31 PA30, 32 PA31, 33 EP

## ATSAMD21G15A-A
designator *  value ATSAMD21G15A-A  Reference: U
ki_keywords: 32-bit ARM Cortex-M0+ MCU Microcontroller; ki_description: SAM D21 Microchip SMART ARM-based Flash MCU, 48Mhz, 32K Flash, 4K SRAM, TQFP-48; ki_fp_filters: TQFP*7x7mm*P0.5mm*; Footprint: Package_QFP:TQFP-48_7x7mm_P0.5mm; Datasheet: http://ww1.microchip.com/downloads/en/DeviceDoc/SAM_D21_DA1_Family_Data%20Sheet_DS40001882E.pdf
pins: 1 PA00, 2 PA01, 3 PA02, 4 PA03, 5 GNDANA, 6 VDDANA, 7 PB08, 8 PB09, 9 PA04, 10 PA05, 11 PA06, 12 PA07, 13 PA08, 14 PA09, 15 PA10, 16 PA11, 17 VDDIO, 18 GND, 19 PB10, 20 PB11, 21 PA12, 22 PA13, 23 PA14, 24 PA15, 25 PA16, 26 PA17, 27 PA18, 28 PA19, 29 PA20, 30 PA21, 31 PA22, 32 PA23, 33 PA24, 34 PA25, 35 GND hidden, 36 VDDIO, 37 PB22, 38 PB23, 39 PA27, 40 ~{{RESET}}, 41 PA28, 42 GND hidden, 43 VDDCORE, 44 VDDIN, 45 PA30, 46 PA31, 47 PB02, 48 PB03

## ATSAMD21G15A-M
designator *  value ATSAMD21G15A-M  Reference: U
ki_keywords: 32-bit ARM Cortex-M0+ MCU Microcontroller; ki_description: SAM D21 Microchip SMART ARM-based Flash MCU, 48Mhz, 32K Flash, 4K SRAM, QFN-48; ki_fp_filters: QFN*7x7mm*P0.5mm*; Footprint: Package_DFN_QFN:QFN-48-1EP_7x7mm_P0.5mm_EP5.15x5.15mm; Datasheet: http://ww1.microchip.com/downloads/en/DeviceDoc/SAM_D21_DA1_Family_Data%20Sheet_DS40001882E.pdf
pins: 1 PA00, 2 PA01, 3 PA02, 4 PA03, 5 GNDANA, 6 VDDANA, 7 PB08, 8 PB09, 9 PA04, 10 PA05, 11 PA06, 12 PA07, 13 PA08, 14 PA09, 15 PA10, 16 PA11, 17 VDDIO, 18 GND, 19 PB10, 20 PB11, 21 PA12, 22 PA13, 23 PA14, 24 PA15, 25 PA16, 26 PA17, 27 PA18, 28 PA19, 29 PA20, 30 PA21, 31 PA22, 32 PA23, 33 PA24, 34 PA25, 35 GND hidden, 36 VDDIO, 37 PB22, 38 PB23, 39 PA27, 40 ~{{RESET}}, 41 PA28, 42 GND hidden, 43 VDDCORE, 44 VDDIN, 45 PA30, 46 PA31, 47 PB02, 48 PB03, 49 EP

## ATSAMD21G15B-A
designator *  value ATSAMD21G15B-A  Reference: U
ki_keywords: 32-bit ARM Cortex-M0+ MCU Microcontroller; ki_description: SAM D21 Microchip SMART ARM-based Flash MCU, 48Mhz, 32K Flash w/ 1K RWW, 4K SRAM, TQFP-48; ki_fp_filters: TQFP*7x7mm*P0.5mm*; Footprint: Package_QFP:TQFP-48_7x7mm_P0.5mm; Datasheet: http://ww1.microchip.com/downloads/en/DeviceDoc/SAM_D21_DA1_Family_Data%20Sheet_DS40001882E.pdf
pins: 1 PA00, 2 PA01, 3 PA02, 4 PA03, 5 GNDANA, 6 VDDANA, 7 PB08, 8 PB09, 9 PA04, 10 PA05, 11 PA06, 12 PA07, 13 PA08, 14 PA09, 15 PA10, 16 PA11, 17 VDDIO, 18 GND, 19 PB10, 20 PB11, 21 PA12, 22 PA13, 23 PA14, 24 PA15, 25 PA16, 26 PA17, 27 PA18, 28 PA19, 29 PA20, 30 PA21, 31 PA22, 32 PA23, 33 PA24, 34 PA25, 35 GND hidden, 36 VDDIO, 37 PB22, 38 PB23, 39 PA27, 40 ~{{RESET}}, 41 PA28, 42 GND hidden, 43 VDDCORE, 44 VDDIN, 45 PA30, 46 PA31, 47 PB02, 48 PB03

## ATSAMD21G15B-M
designator *  value ATSAMD21G15B-M  Reference: U
ki_keywords: 32-bit ARM Cortex-M0+ MCU Microcontroller; ki_description: SAM D21 Microchip SMART ARM-based Flash MCU, 48Mhz, 32K Flash w/ 1K RWW, 4K SRAM, QFN-48; ki_fp_filters: QFN*7x7mm*P0.5mm*; Footprint: Package_DFN_QFN:QFN-48-1EP_7x7mm_P0.5mm_EP5.15x5.15mm; Datasheet: http://ww1.microchip.com/downloads/en/DeviceDoc/SAM_D21_DA1_Family_Data%20Sheet_DS40001882E.pdf
pins: 1 PA00, 2 PA01, 3 PA02, 4 PA03, 5 GNDANA, 6 VDDANA, 7 PB08, 8 PB09, 9 PA04, 10 PA05, 11 PA06, 12 PA07, 13 PA08, 14 PA09, 15 PA10, 16 PA11, 17 VDDIO, 18 GND, 19 PB10, 20 PB11, 21 PA12, 22 PA13, 23 PA14, 24 PA15, 25 PA16, 26 PA17, 27 PA18, 28 PA19, 29 PA20, 30 PA21, 31 PA22, 32 PA23, 33 PA24, 34 PA25, 35 GND hidden, 36 VDDIO, 37 PB22, 38 PB23, 39 PA27, 40 ~{{RESET}}, 41 PA28, 42 GND hidden, 43 VDDCORE, 44 VDDIN, 45 PA30, 46 PA31, 47 PB02, 48 PB03, 49 EP

## ATSAMD21G16A-A
designator *  value ATSAMD21G16A-A  Reference: U
ki_keywords: 32-bit ARM Cortex-M0+ MCU Microcontroller; ki_description: SAM D21 Microchip SMART ARM-based Flash MCU, 48Mhz, 64K Flash, 8K SRAM, TQFP-48; ki_fp_filters: TQFP*7x7mm*P0.5mm*; Footprint: Package_QFP:TQFP-48_7x7mm_P0.5mm; Datasheet: http://ww1.microchip.com/downloads/en/DeviceDoc/SAM_D21_DA1_Family_Data%20Sheet_DS40001882E.pdf
pins: 1 PA00, 2 PA01, 3 PA02, 4 PA03, 5 GNDANA, 6 VDDANA, 7 PB08, 8 PB09, 9 PA04, 10 PA05, 11 PA06, 12 PA07, 13 PA08, 14 PA09, 15 PA10, 16 PA11, 17 VDDIO, 18 GND, 19 PB10, 20 PB11, 21 PA12, 22 PA13, 23 PA14, 24 PA15, 25 PA16, 26 PA17, 27 PA18, 28 PA19, 29 PA20, 30 PA21, 31 PA22, 32 PA23, 33 PA24, 34 PA25, 35 GND hidden, 36 VDDIO, 37 PB22, 38 PB23, 39 PA27, 40 ~{{RESET}}, 41 PA28, 42 GND hidden, 43 VDDCORE, 44 VDDIN, 45 PA30, 46 PA31, 47 PB02, 48 PB03

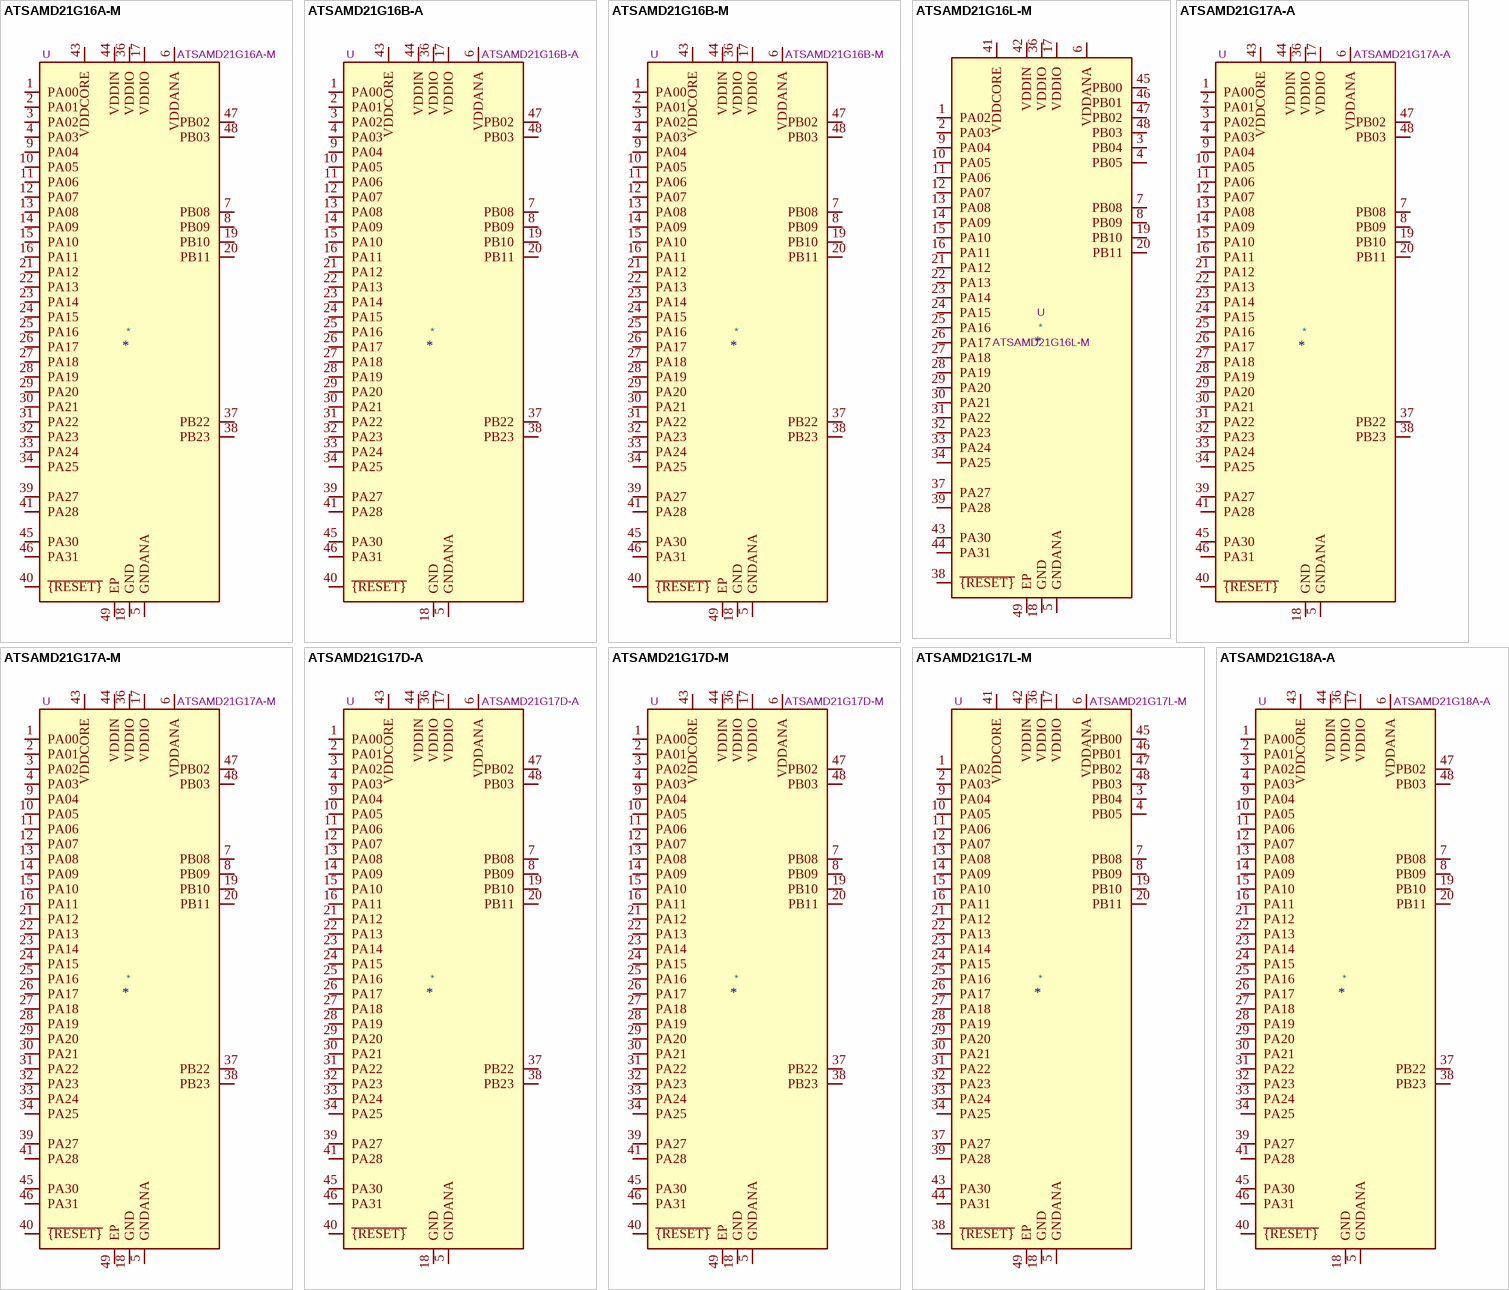
[diagram p3: symbols ATSAMD21G16A-M to ATSAMD21G18A-A]

## ATSAMD21G16A-M
designator *  value ATSAMD21G16A-M  Reference: U
ki_keywords: 32-bit ARM Cortex-M0+ MCU Microcontroller; ki_description: SAM D21 Microchip SMART ARM-based Flash MCU, 48Mhz, 64K Flash, 8K SRAM, QFN-48; ki_fp_filters: QFN*7x7mm*P0.5mm*; Footprint: Package_DFN_QFN:QFN-48-1EP_7x7mm_P0.5mm_EP5.15x5.15mm; Datasheet: http://ww1.microchip.com/downloads/en/DeviceDoc/SAM_D21_DA1_Family_Data%20Sheet_DS40001882E.pdf
pins: 1 PA00, 2 PA01, 3 PA02, 4 PA03, 5 GNDANA, 6 VDDANA, 7 PB08, 8 PB09, 9 PA04, 10 PA05, 11 PA06, 12 PA07, 13 PA08, 14 PA09, 15 PA10, 16 PA11, 17 VDDIO, 18 GND, 19 PB10, 20 PB11, 21 PA12, 22 PA13, 23 PA14, 24 PA15, 25 PA16, 26 PA17, 27 PA18, 28 PA19, 29 PA20, 30 PA21, 31 PA22, 32 PA23, 33 PA24, 34 PA25, 35 GND hidden, 36 VDDIO, 37 PB22, 38 PB23, 39 PA27, 40 ~{{RESET}}, 41 PA28, 42 GND hidden, 43 VDDCORE, 44 VDDIN, 45 PA30, 46 PA31, 47 PB02, 48 PB03, 49 EP

## ATSAMD21G16B-A
designator *  value ATSAMD21G16B-A  Reference: U
ki_keywords: 32-bit ARM Cortex-M0+ MCU Microcontroller; ki_description: SAM D21 Microchip SMART ARM-based Flash MCU, 48Mhz, 64K Flash w/ 2K RWW, 8K SRAM, TQFP-48; ki_fp_filters: TQFP*7x7mm*P0.5mm*; Footprint: Package_QFP:TQFP-48_7x7mm_P0.5mm; Datasheet: http://ww1.microchip.com/downloads/en/DeviceDoc/SAM_D21_DA1_Family_Data%20Sheet_DS40001882E.pdf
pins: 1 PA00, 2 PA01, 3 PA02, 4 PA03, 5 GNDANA, 6 VDDANA, 7 PB08, 8 PB09, 9 PA04, 10 PA05, 11 PA06, 12 PA07, 13 PA08, 14 PA09, 15 PA10, 16 PA11, 17 VDDIO, 18 GND, 19 PB10, 20 PB11, 21 PA12, 22 PA13, 23 PA14, 24 PA15, 25 PA16, 26 PA17, 27 PA18, 28 PA19, 29 PA20, 30 PA21, 31 PA22, 32 PA23, 33 PA24, 34 PA25, 35 GND hidden, 36 VDDIO, 37 PB22, 38 PB23, 39 PA27, 40 ~{{RESET}}, 41 PA28, 42 GND hidden, 43 VDDCORE, 44 VDDIN, 45 PA30, 46 PA31, 47 PB02, 48 PB03

## ATSAMD21G16B-M
designator *  value ATSAMD21G16B-M  Reference: U
ki_keywords: 32-bit ARM Cortex-M0+ MCU Microcontroller; ki_description: SAM D21 Microchip SMART ARM-based Flash MCU, 48Mhz, 64K Flash w/ 2K RWW, 8K SRAM, QFN-48; ki_fp_filters: QFN*7x7mm*P0.5mm*; Footprint: Package_DFN_QFN:QFN-48-1EP_7x7mm_P0.5mm_EP5.15x5.15mm; Datasheet: http://ww1.microchip.com/downloads/en/DeviceDoc/SAM_D21_DA1_Family_Data%20Sheet_DS40001882E.pdf
pins: 1 PA00, 2 PA01, 3 PA02, 4 PA03, 5 GNDANA, 6 VDDANA, 7 PB08, 8 PB09, 9 PA04, 10 PA05, 11 PA06, 12 PA07, 13 PA08, 14 PA09, 15 PA10, 16 PA11, 17 VDDIO, 18 GND, 19 PB10, 20 PB11, 21 PA12, 22 PA13, 23 PA14, 24 PA15, 25 PA16, 26 PA17, 27 PA18, 28 PA19, 29 PA20, 30 PA21, 31 PA22, 32 PA23, 33 PA24, 34 PA25, 35 GND hidden, 36 VDDIO, 37 PB22, 38 PB23, 39 PA27, 40 ~{{RESET}}, 41 PA28, 42 GND hidden, 43 VDDCORE, 44 VDDIN, 45 PA30, 46 PA31, 47 PB02, 48 PB03, 49 EP

## ATSAMD21G16L-M
designator *  value ATSAMD21G16L-M  Reference: U
ki_keywords: 32-bit ARM Cortex-M0+ MCU Microcontroller; ki_description: SAM D21 Microchip SMART ARM-based Flash MCU, 48Mhz, 64K Flash w/ 2K RWW, 8K SRAM, Pinout Optimized for Analog & PWM, QFN-48; ki_fp_filters: QFN*7x7mm*P0.5mm*; Footprint: Package_DFN_QFN:QFN-48-1EP_7x7mm_P0.5mm_EP5.15x5.15mm; Datasheet: http://ww1.microchip.com/downloads/en/DeviceDoc/SAM_D21_DA1_Family_Data%20Sheet_DS40001882E.pdf
pins: 1 PA02, 2 PA03, 3 PB04, 4 PB05, 5 GNDANA, 6 VDDANA, 7 PB08, 8 PB09, 9 PA04, 10 PA05, 11 PA06, 12 PA07, 13 PA08, 14 PA09, 15 PA10, 16 PA11, 17 VDDIO, 18 GND, 19 PB10, 20 PB11, 21 PA12, 22 PA13, 23 PA14, 24 PA15, 25 PA16, 26 PA17, 27 PA18, 28 PA19, 29 PA20, 30 PA21, 31 PA22, 32 PA23, 33 PA24, 34 PA25, 35 GND hidden, 36 VDDIO, 37 PA27, 38 ~{{RESET}}, 39 PA28, 40 GND hidden, 41 VDDCORE, 42 VDDIN, 43 PA30, 44 PA31, 45 PB00, 46 PB01, 47 PB02, 48 PB03, 49 EP

## ATSAMD21G17A-A
designator *  value ATSAMD21G17A-A  Reference: U
ki_keywords: 32-bit ARM Cortex-M0+ MCU Microcontroller; ki_description: SAM D21 Microchip SMART ARM-based Flash MCU, 48Mhz, 128K Flash, 16K SRAM, TQFP-48; ki_fp_filters: TQFP*7x7mm*P0.5mm*; Footprint: Package_QFP:TQFP-48_7x7mm_P0.5mm; Datasheet: http://ww1.microchip.com/downloads/en/DeviceDoc/SAM_D21_DA1_Family_Data%20Sheet_DS40001882E.pdf
pins: 1 PA00, 2 PA01, 3 PA02, 4 PA03, 5 GNDANA, 6 VDDANA, 7 PB08, 8 PB09, 9 PA04, 10 PA05, 11 PA06, 12 PA07, 13 PA08, 14 PA09, 15 PA10, 16 PA11, 17 VDDIO, 18 GND, 19 PB10, 20 PB11, 21 PA12, 22 PA13, 23 PA14, 24 PA15, 25 PA16, 26 PA17, 27 PA18, 28 PA19, 29 PA20, 30 PA21, 31 PA22, 32 PA23, 33 PA24, 34 PA25, 35 GND hidden, 36 VDDIO, 37 PB22, 38 PB23, 39 PA27, 40 ~{{RESET}}, 41 PA28, 42 GND hidden, 43 VDDCORE, 44 VDDIN, 45 PA30, 46 PA31, 47 PB02, 48 PB03

## ATSAMD21G17A-M
designator *  value ATSAMD21G17A-M  Reference: U
ki_keywords: 32-bit ARM Cortex-M0+ MCU Microcontroller; ki_description: SAM D21 Microchip SMART ARM-based Flash MCU, 48Mhz, 128K Flash, 16K SRAM, QFN-48; ki_fp_filters: QFN*7x7mm*P0.5mm*; Footprint: Package_DFN_QFN:QFN-48-1EP_7x7mm_P0.5mm_EP5.15x5.15mm; Datasheet: http://ww1.microchip.com/downloads/en/DeviceDoc/SAM_D21_DA1_Family_Data%20Sheet_DS40001882E.pdf
pins: 1 PA00, 2 PA01, 3 PA02, 4 PA03, 5 GNDANA, 6 VDDANA, 7 PB08, 8 PB09, 9 PA04, 10 PA05, 11 PA06, 12 PA07, 13 PA08, 14 PA09, 15 PA10, 16 PA11, 17 VDDIO, 18 GND, 19 PB10, 20 PB11, 21 PA12, 22 PA13, 23 PA14, 24 PA15, 25 PA16, 26 PA17, 27 PA18, 28 PA19, 29 PA20, 30 PA21, 31 PA22, 32 PA23, 33 PA24, 34 PA25, 35 GND hidden, 36 VDDIO, 37 PB22, 38 PB23, 39 PA27, 40 ~{{RESET}}, 41 PA28, 42 GND hidden, 43 VDDCORE, 44 VDDIN, 45 PA30, 46 PA31, 47 PB02, 48 PB03, 49 EP

## ATSAMD21G17D-A
designator *  value ATSAMD21G17D-A  Reference: U
ki_keywords: 32-bit ARM Cortex-M0+ MCU Microcontroller; ki_description: SAM D21 Microchip SMART ARM-based Flash MCU, 48Mhz, 128K Flash w/ 4K RWW, 16K SRAM, TQFP-48; ki_fp_filters: TQFP*7x7mm*P0.5mm*; Footprint: Package_QFP:TQFP-48_7x7mm_P0.5mm; Datasheet: http://ww1.microchip.com/downloads/en/DeviceDoc/SAM_D21_DA1_Family_Data%20Sheet_DS40001882E.pdf
pins: 1 PA00, 2 PA01, 3 PA02, 4 PA03, 5 GNDANA, 6 VDDANA, 7 PB08, 8 PB09, 9 PA04, 10 PA05, 11 PA06, 12 PA07, 13 PA08, 14 PA09, 15 PA10, 16 PA11, 17 VDDIO, 18 GND, 19 PB10, 20 PB11, 21 PA12, 22 PA13, 23 PA14, 24 PA15, 25 PA16, 26 PA17, 27 PA18, 28 PA19, 29 PA20, 30 PA21, 31 PA22, 32 PA23, 33 PA24, 34 PA25, 35 GND hidden, 36 VDDIO, 37 PB22, 38 PB23, 39 PA27, 40 ~{{RESET}}, 41 PA28, 42 GND hidden, 43 VDDCORE, 44 VDDIN, 45 PA30, 46 PA31, 47 PB02, 48 PB03

## ATSAMD21G17D-M
designator *  value ATSAMD21G17D-M  Reference: U
ki_keywords: 32-bit ARM Cortex-M0+ MCU Microcontroller; ki_description: SAM D21 Microchip SMART ARM-based Flash MCU, 48Mhz, 128K Flash w/ 4K RWW, 16K SRAM, QFN-48; ki_fp_filters: QFN*7x7mm*P0.5mm*; Footprint: Package_DFN_QFN:QFN-48-1EP_7x7mm_P0.5mm_EP5.15x5.15mm; Datasheet: http://ww1.microchip.com/downloads/en/DeviceDoc/SAM_D21_DA1_Family_Data%20Sheet_DS40001882E.pdf
pins: 1 PA00, 2 PA01, 3 PA02, 4 PA03, 5 GNDANA, 6 VDDANA, 7 PB08, 8 PB09, 9 PA04, 10 PA05, 11 PA06, 12 PA07, 13 PA08, 14 PA09, 15 PA10, 16 PA11, 17 VDDIO, 18 GND, 19 PB10, 20 PB11, 21 PA12, 22 PA13, 23 PA14, 24 PA15, 25 PA16, 26 PA17, 27 PA18, 28 PA19, 29 PA20, 30 PA21, 31 PA22, 32 PA23, 33 PA24, 34 PA25, 35 GND hidden, 36 VDDIO, 37 PB22, 38 PB23, 39 PA27, 40 ~{{RESET}}, 41 PA28, 42 GND hidden, 43 VDDCORE, 44 VDDIN, 45 PA30, 46 PA31, 47 PB02, 48 PB03, 49 EP

## ATSAMD21G17L-M
designator *  value ATSAMD21G17L-M  Reference: U
ki_keywords: 32-bit ARM Cortex-M0+ MCU Microcontroller; ki_description: SAM D21 Microchip SMART ARM-based Flash MCU, 48Mhz, 128K Flash w/ 4K RWW, 16K SRAM, Pinout Optimized for Analog & PWM, QFN-48; ki_fp_filters: QFN*7x7mm*P0.5mm*; Footprint: Package_DFN_QFN:QFN-48-1EP_7x7mm_P0.5mm_EP5.15x5.15mm; Datasheet: http://ww1.microchip.com/downloads/en/DeviceDoc/SAM_D21_DA1_Family_Data%20Sheet_DS40001882E.pdf
pins: 1 PA02, 2 PA03, 3 PB04, 4 PB05, 5 GNDANA, 6 VDDANA, 7 PB08, 8 PB09, 9 PA04, 10 PA05, 11 PA06, 12 PA07, 13 PA08, 14 PA09, 15 PA10, 16 PA11, 17 VDDIO, 18 GND, 19 PB10, 20 PB11, 21 PA12, 22 PA13, 23 PA14, 24 PA15, 25 PA16, 26 PA17, 27 PA18, 28 PA19, 29 PA20, 30 PA21, 31 PA22, 32 PA23, 33 PA24, 34 PA25, 35 GND hidden, 36 VDDIO, 37 PA27, 38 ~{{RESET}}, 39 PA28, 40 GND hidden, 41 VDDCORE, 42 VDDIN, 43 PA30, 44 PA31, 45 PB00, 46 PB01, 47 PB02, 48 PB03, 49 EP

## ATSAMD21G18A-A
designator *  value ATSAMD21G18A-A  Reference: U
ki_keywords: 32-bit ARM Cortex-M0+ MCU Microcontroller; ki_description: SAM D21 Microchip SMART ARM-based Flash MCU, 48Mhz, 256K Flash, 32K SRAM, TQFP-48; ki_fp_filters: TQFP*7x7mm*P0.5mm*; Footprint: Package_QFP:TQFP-48_7x7mm_P0.5mm; Datasheet: http://ww1.microchip.com/downloads/en/DeviceDoc/SAM_D21_DA1_Family_Data%20Sheet_DS40001882E.pdf
pins: 1 PA00, 2 PA01, 3 PA02, 4 PA03, 5 GNDANA, 6 VDDANA, 7 PB08, 8 PB09, 9 PA04, 10 PA05, 11 PA06, 12 PA07, 13 PA08, 14 PA09, 15 PA10, 16 PA11, 17 VDDIO, 18 GND, 19 PB10, 20 PB11, 21 PA12, 22 PA13, 23 PA14, 24 PA15, 25 PA16, 26 PA17, 27 PA18, 28 PA19, 29 PA20, 30 PA21, 31 PA22, 32 PA23, 33 PA24, 34 PA25, 35 GND hidden, 36 VDDIO, 37 PB22, 38 PB23, 39 PA27, 40 ~{{RESET}}, 41 PA28, 42 GND hidden, 43 VDDCORE, 44 VDDIN, 45 PA30, 46 PA31, 47 PB02, 48 PB03

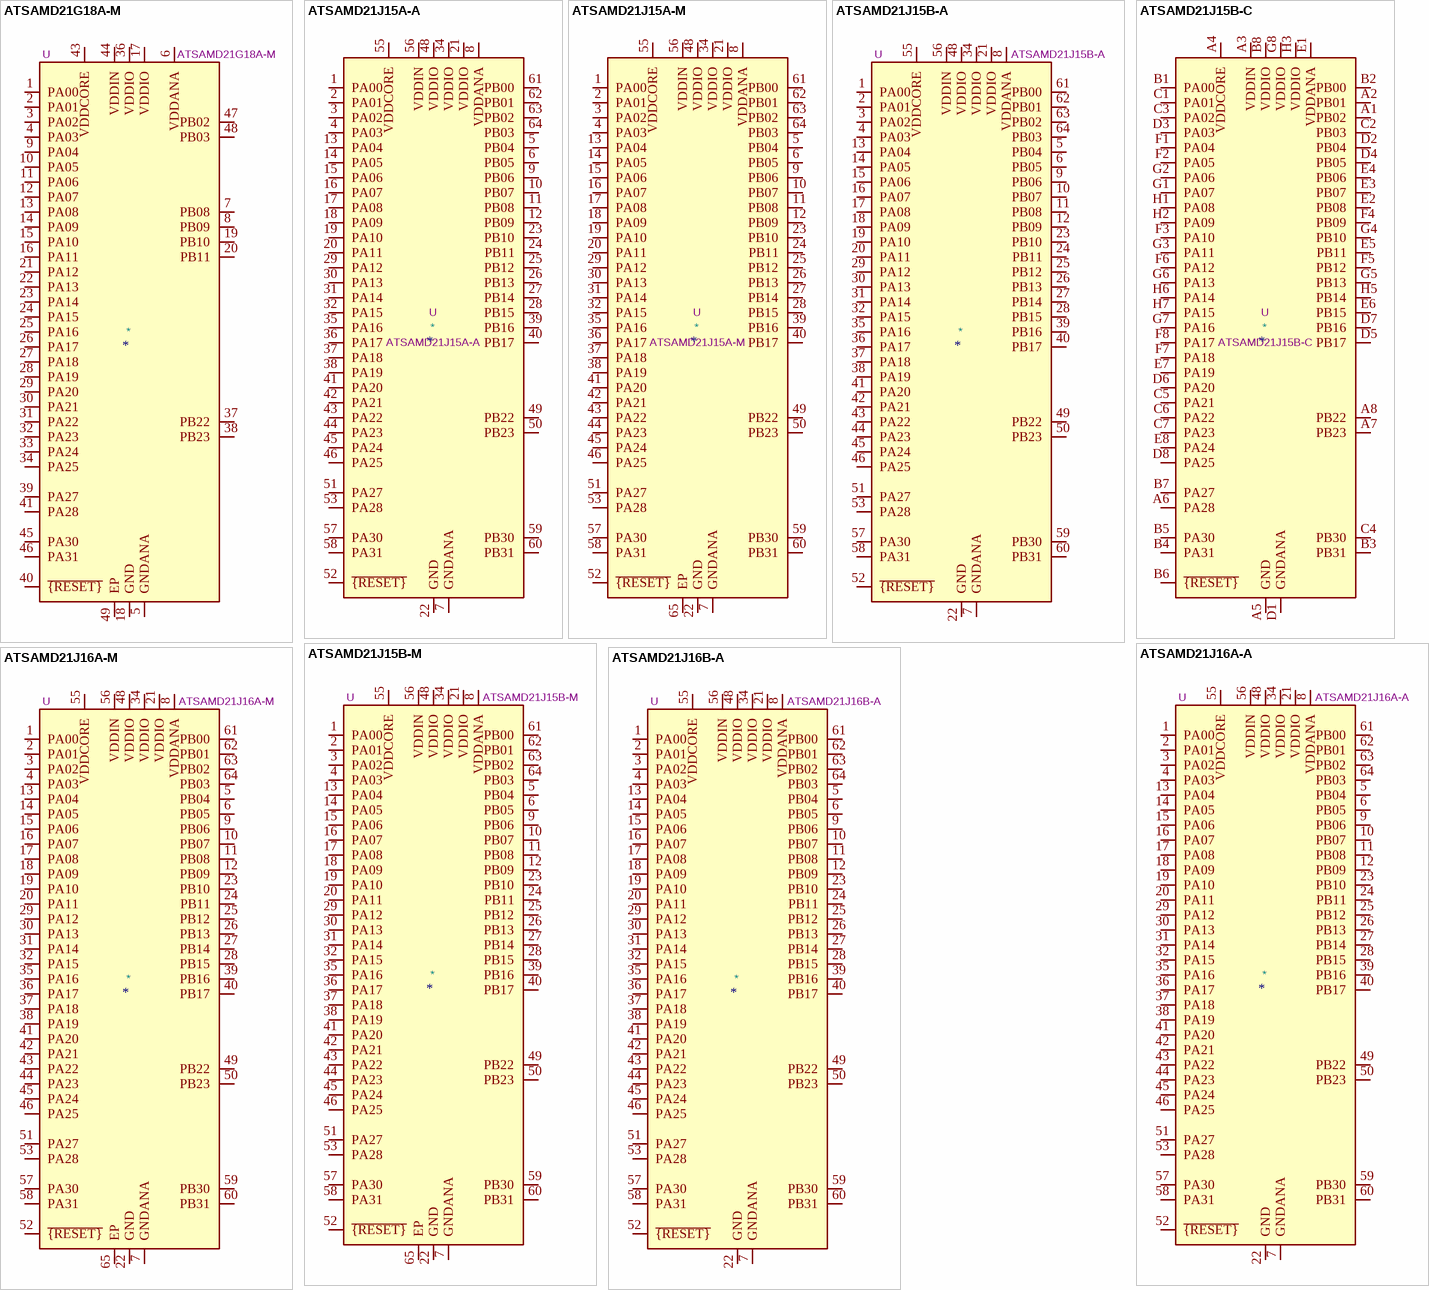
[diagram p4: symbols ATSAMD21G18A-M to ATSAMD21J16B-A]

## ATSAMD21G18A-M
designator *  value ATSAMD21G18A-M  Reference: U
ki_keywords: 32-bit ARM Cortex-M0+ MCU Microcontroller; ki_description: SAM D21 Microchip SMART ARM-based Flash MCU, 48Mhz, 256K Flash, 32K SRAM, QFN-48; ki_fp_filters: QFN*7x7mm*P0.5mm*; Footprint: Package_DFN_QFN:QFN-48-1EP_7x7mm_P0.5mm_EP5.15x5.15mm; Datasheet: http://ww1.microchip.com/downloads/en/DeviceDoc/SAM_D21_DA1_Family_Data%20Sheet_DS40001882E.pdf
pins: 1 PA00, 2 PA01, 3 PA02, 4 PA03, 5 GNDANA, 6 VDDANA, 7 PB08, 8 PB09, 9 PA04, 10 PA05, 11 PA06, 12 PA07, 13 PA08, 14 PA09, 15 PA10, 16 PA11, 17 VDDIO, 18 GND, 19 PB10, 20 PB11, 21 PA12, 22 PA13, 23 PA14, 24 PA15, 25 PA16, 26 PA17, 27 PA18, 28 PA19, 29 PA20, 30 PA21, 31 PA22, 32 PA23, 33 PA24, 34 PA25, 35 GND hidden, 36 VDDIO, 37 PB22, 38 PB23, 39 PA27, 40 ~{{RESET}}, 41 PA28, 42 GND hidden, 43 VDDCORE, 44 VDDIN, 45 PA30, 46 PA31, 47 PB02, 48 PB03, 49 EP

## ATSAMD21J15A-A
designator *  value ATSAMD21J15A-A  Reference: U
ki_keywords: 32-bit ARM Cortex-M0+ MCU Microcontroller; ki_description: SAM D21 Microchip SMART ARM-based Flash MCU, 48Mhz, 32K Flash, 4K SRAM, TQFP-64; ki_fp_filters: TQFP*10x10mm*P0.5mm*; Footprint: Package_QFP:TQFP-64_10x10mm_P0.5mm; Datasheet: http://ww1.microchip.com/downloads/en/DeviceDoc/SAM_D21_DA1_Family_Data%20Sheet_DS40001882E.pdf
pins: 1 PA00, 2 PA01, 3 PA02, 4 PA03, 5 PB04, 6 PB05, 7 GNDANA, 8 VDDANA, 9 PB06, 10 PB07, 11 PB08, 12 PB09, 13 PA04, 14 PA05, 15 PA06, 16 PA07, 17 PA08, 18 PA09, 19 PA10, 20 PA11, 21 VDDIO, 22 GND, 23 PB10, 24 PB11, 25 PB12, 26 PB13, 27 PB14, 28 PB15, 29 PA12, 30 PA13, 31 PA14, 32 PA15, 33 GND hidden, 34 VDDIO, 35 PA16, 36 PA17, 37 PA18, 38 PA19, 39 PB16, 40 PB17, 41 PA20, 42 PA21, 43 PA22, 44 PA23, 45 PA24, 46 PA25, 47 GND hidden, 48 VDDIO, 49 PB22, 50 PB23, 51 PA27, 52 ~{{RESET}}, 53 PA28, 54 GND hidden, 55 VDDCORE, 56 VDDIN, 57 PA30, 58 PA31, 59 PB30, 60 PB31, 61 PB00, 62 PB01, 63 PB02, 64 PB03

## ATSAMD21J15A-M
designator *  value ATSAMD21J15A-M  Reference: U
ki_keywords: 32-bit ARM Cortex-M0+ MCU Microcontroller; ki_description: SAM D21 Microchip SMART ARM-based Flash MCU, 48Mhz, 32K Flash, 4K SRAM, QFN-64; ki_fp_filters: QFN*9x9mm*P0.5mm*; Footprint: Package_DFN_QFN:QFN-64-1EP_9x9mm_P0.5mm_EP4.7x4.7mm; Datasheet: http://ww1.microchip.com/downloads/en/DeviceDoc/SAM_D21_DA1_Family_Data%20Sheet_DS40001882E.pdf
pins: 1 PA00, 2 PA01, 3 PA02, 4 PA03, 5 PB04, 6 PB05, 7 GNDANA, 8 VDDANA, 9 PB06, 10 PB07, 11 PB08, 12 PB09, 13 PA04, 14 PA05, 15 PA06, 16 PA07, 17 PA08, 18 PA09, 19 PA10, 20 PA11, 21 VDDIO, 22 GND, 23 PB10, 24 PB11, 25 PB12, 26 PB13, 27 PB14, 28 PB15, 29 PA12, 30 PA13, 31 PA14, 32 PA15, 33 GND hidden, 34 VDDIO, 35 PA16, 36 PA17, 37 PA18, 38 PA19, 39 PB16, 40 PB17, 41 PA20, 42 PA21, 43 PA22, 44 PA23, 45 PA24, 46 PA25, 47 GND hidden, 48 VDDIO, 49 PB22, 50 PB23, 51 PA27, 52 ~{{RESET}}, 53 PA28, 54 GND hidden, 55 VDDCORE, 56 VDDIN, 57 PA30, 58 PA31, 59 PB30, 60 PB31, 61 PB00, 62 PB01, 63 PB02, 64 PB03, 65 EP

## ATSAMD21J15B-A
designator *  value ATSAMD21J15B-A  Reference: U
ki_keywords: 32-bit ARM Cortex-M0+ MCU Microcontroller; ki_description: SAM D21 Microchip SMART ARM-based Flash MCU, 48Mhz, 32K Flash w/ 1K RWW, 4K SRAM, TQFP-64; ki_fp_filters: TQFP*10x10mm*P0.5mm*; Footprint: Package_QFP:TQFP-64_10x10mm_P0.5mm; Datasheet: http://ww1.microchip.com/downloads/en/DeviceDoc/SAM_D21_DA1_Family_Data%20Sheet_DS40001882E.pdf
pins: 1 PA00, 2 PA01, 3 PA02, 4 PA03, 5 PB04, 6 PB05, 7 GNDANA, 8 VDDANA, 9 PB06, 10 PB07, 11 PB08, 12 PB09, 13 PA04, 14 PA05, 15 PA06, 16 PA07, 17 PA08, 18 PA09, 19 PA10, 20 PA11, 21 VDDIO, 22 GND, 23 PB10, 24 PB11, 25 PB12, 26 PB13, 27 PB14, 28 PB15, 29 PA12, 30 PA13, 31 PA14, 32 PA15, 33 GND hidden, 34 VDDIO, 35 PA16, 36 PA17, 37 PA18, 38 PA19, 39 PB16, 40 PB17, 41 PA20, 42 PA21, 43 PA22, 44 PA23, 45 PA24, 46 PA25, 47 GND hidden, 48 VDDIO, 49 PB22, 50 PB23, 51 PA27, 52 ~{{RESET}}, 53 PA28, 54 GND hidden, 55 VDDCORE, 56 VDDIN, 57 PA30, 58 PA31, 59 PB30, 60 PB31, 61 PB00, 62 PB01, 63 PB02, 64 PB03

## ATSAMD21J15B-C
designator *  value ATSAMD21J15B-C  Reference: U
ki_keywords: 32-bit ARM Cortex-M0+ MCU Microcontroller; ki_description: SAM D21 Microchip SMART ARM-based Flash MCU, 48Mhz, 32K Flash w/ 1K RWW, 4K SRAM, UFBGA-64; ki_fp_filters: UFBGA*5x5mm*Layout8x8*P0.5mm*; Footprint: Package_BGA:UFBGA-64_5x5mm_Layout8x8_P0.5mm; Datasheet: http://ww1.microchip.com/downloads/en/DeviceDoc/SAM_D21_DA1_Family_Data%20Sheet_DS40001882E.pdf
pins: A1 PB02, A2 PB01, A3 VDDIN, A4 VDDCORE, A5 GND, A6 PA28, A7 PB23, A8 PB22, B1 PA00, B2 PB00, B3 PB31, B4 PA31, B5 PA30, B6 ~{{RESET}}, B7 PA27, B8 VDDIO, C1 PA01, C2 PB03, C3 PA02, C4 PB30, C5 PA21, C6 PA22, C7 PA23, C8 GND hidden, D1 GNDANA, D2 PB04, D3 PA03, D4 PB05, D5 PB17, D6 PA20, D7 PB16, D8 PA25, E1 VDDANA, E2 PB08, E3 PB07, E4 PB06, E5 PB11, E6 PB15, E7 PA19, E8 PA24, F1 PA04, F2 PA05, F3 PA10, F4 PB09, F5 PB12, F6 PA12, F7 PA18, F8 PA17, G1 PA07, G2 PA06, G3 PA11, G4 PB10, G5 PB13, G6 PA13, G7 PA16, G8 VDDIO, H1 PA08, H2 PA09, H3 VDDIO, H4 GND hidden, H5 PB14, H6 PA14, H7 PA15, H8 GND hidden

## ATSAMD21J15B-M
designator *  value ATSAMD21J15B-M  Reference: U
ki_keywords: 32-bit ARM Cortex-M0+ MCU Microcontroller; ki_description: SAM D21 Microchip SMART ARM-based Flash MCU, 48Mhz, 32K Flash w/ 1K RWW, 4K SRAM, QFN-64; ki_fp_filters: QFN*9x9mm*P0.5mm*; Footprint: Package_DFN_QFN:QFN-64-1EP_9x9mm_P0.5mm_EP4.7x4.7mm; Datasheet: http://ww1.microchip.com/downloads/en/DeviceDoc/SAM_D21_DA1_Family_Data%20Sheet_DS40001882E.pdf
pins: 1 PA00, 2 PA01, 3 PA02, 4 PA03, 5 PB04, 6 PB05, 7 GNDANA, 8 VDDANA, 9 PB06, 10 PB07, 11 PB08, 12 PB09, 13 PA04, 14 PA05, 15 PA06, 16 PA07, 17 PA08, 18 PA09, 19 PA10, 20 PA11, 21 VDDIO, 22 GND, 23 PB10, 24 PB11, 25 PB12, 26 PB13, 27 PB14, 28 PB15, 29 PA12, 30 PA13, 31 PA14, 32 PA15, 33 GND hidden, 34 VDDIO, 35 PA16, 36 PA17, 37 PA18, 38 PA19, 39 PB16, 40 PB17, 41 PA20, 42 PA21, 43 PA22, 44 PA23, 45 PA24, 46 PA25, 47 GND hidden, 48 VDDIO, 49 PB22, 50 PB23, 51 PA27, 52 ~{{RESET}}, 53 PA28, 54 GND hidden, 55 VDDCORE, 56 VDDIN, 57 PA30, 58 PA31, 59 PB30, 60 PB31, 61 PB00, 62 PB01, 63 PB02, 64 PB03, 65 EP

## ATSAMD21J16A-A
designator *  value ATSAMD21J16A-A  Reference: U
ki_keywords: 32-bit ARM Cortex-M0+ MCU Microcontroller; ki_description: SAM D21 Microchip SMART ARM-based Flash MCU, 48Mhz, 64K Flash, 8K SRAM, TQFP-64; ki_fp_filters: TQFP*10x10mm*P0.5mm*; Footprint: Package_QFP:TQFP-64_10x10mm_P0.5mm; Datasheet: http://ww1.microchip.com/downloads/en/DeviceDoc/SAM_D21_DA1_Family_Data%20Sheet_DS40001882E.pdf
pins: 1 PA00, 2 PA01, 3 PA02, 4 PA03, 5 PB04, 6 PB05, 7 GNDANA, 8 VDDANA, 9 PB06, 10 PB07, 11 PB08, 12 PB09, 13 PA04, 14 PA05, 15 PA06, 16 PA07, 17 PA08, 18 PA09, 19 PA10, 20 PA11, 21 VDDIO, 22 GND, 23 PB10, 24 PB11, 25 PB12, 26 PB13, 27 PB14, 28 PB15, 29 PA12, 30 PA13, 31 PA14, 32 PA15, 33 GND hidden, 34 VDDIO, 35 PA16, 36 PA17, 37 PA18, 38 PA19, 39 PB16, 40 PB17, 41 PA20, 42 PA21, 43 PA22, 44 PA23, 45 PA24, 46 PA25, 47 GND hidden, 48 VDDIO, 49 PB22, 50 PB23, 51 PA27, 52 ~{{RESET}}, 53 PA28, 54 GND hidden, 55 VDDCORE, 56 VDDIN, 57 PA30, 58 PA31, 59 PB30, 60 PB31, 61 PB00, 62 PB01, 63 PB02, 64 PB03

## ATSAMD21J16A-M
designator *  value ATSAMD21J16A-M  Reference: U
ki_keywords: 32-bit ARM Cortex-M0+ MCU Microcontroller; ki_description: SAM D21 Microchip SMART ARM-based Flash MCU, 48Mhz, 64K Flash, 8K SRAM, QFN-64; ki_fp_filters: QFN*9x9mm*P0.5mm*; Footprint: Package_DFN_QFN:QFN-64-1EP_9x9mm_P0.5mm_EP4.7x4.7mm; Datasheet: http://ww1.microchip.com/downloads/en/DeviceDoc/SAM_D21_DA1_Family_Data%20Sheet_DS40001882E.pdf
pins: 1 PA00, 2 PA01, 3 PA02, 4 PA03, 5 PB04, 6 PB05, 7 GNDANA, 8 VDDANA, 9 PB06, 10 PB07, 11 PB08, 12 PB09, 13 PA04, 14 PA05, 15 PA06, 16 PA07, 17 PA08, 18 PA09, 19 PA10, 20 PA11, 21 VDDIO, 22 GND, 23 PB10, 24 PB11, 25 PB12, 26 PB13, 27 PB14, 28 PB15, 29 PA12, 30 PA13, 31 PA14, 32 PA15, 33 GND hidden, 34 VDDIO, 35 PA16, 36 PA17, 37 PA18, 38 PA19, 39 PB16, 40 PB17, 41 PA20, 42 PA21, 43 PA22, 44 PA23, 45 PA24, 46 PA25, 47 GND hidden, 48 VDDIO, 49 PB22, 50 PB23, 51 PA27, 52 ~{{RESET}}, 53 PA28, 54 GND hidden, 55 VDDCORE, 56 VDDIN, 57 PA30, 58 PA31, 59 PB30, 60 PB31, 61 PB00, 62 PB01, 63 PB02, 64 PB03, 65 EP

## ATSAMD21J16B-A
designator *  value ATSAMD21J16B-A  Reference: U
ki_keywords: 32-bit ARM Cortex-M0+ MCU Microcontroller; ki_description: SAM D21 Microchip SMART ARM-based Flash MCU, 48Mhz, 64K Flash w/ 2K RWW, 8K SRAM, TQFP-64; ki_fp_filters: TQFP*10x10mm*P0.5mm*; Footprint: Package_QFP:TQFP-64_10x10mm_P0.5mm; Datasheet: http://ww1.microchip.com/downloads/en/DeviceDoc/SAM_D21_DA1_Family_Data%20Sheet_DS40001882E.pdf
pins: 1 PA00, 2 PA01, 3 PA02, 4 PA03, 5 PB04, 6 PB05, 7 GNDANA, 8 VDDANA, 9 PB06, 10 PB07, 11 PB08, 12 PB09, 13 PA04, 14 PA05, 15 PA06, 16 PA07, 17 PA08, 18 PA09, 19 PA10, 20 PA11, 21 VDDIO, 22 GND, 23 PB10, 24 PB11, 25 PB12, 26 PB13, 27 PB14, 28 PB15, 29 PA12, 30 PA13, 31 PA14, 32 PA15, 33 GND hidden, 34 VDDIO, 35 PA16, 36 PA17, 37 PA18, 38 PA19, 39 PB16, 40 PB17, 41 PA20, 42 PA21, 43 PA22, 44 PA23, 45 PA24, 46 PA25, 47 GND hidden, 48 VDDIO, 49 PB22, 50 PB23, 51 PA27, 52 ~{{RESET}}, 53 PA28, 54 GND hidden, 55 VDDCORE, 56 VDDIN, 57 PA30, 58 PA31, 59 PB30, 60 PB31, 61 PB00, 62 PB01, 63 PB02, 64 PB03

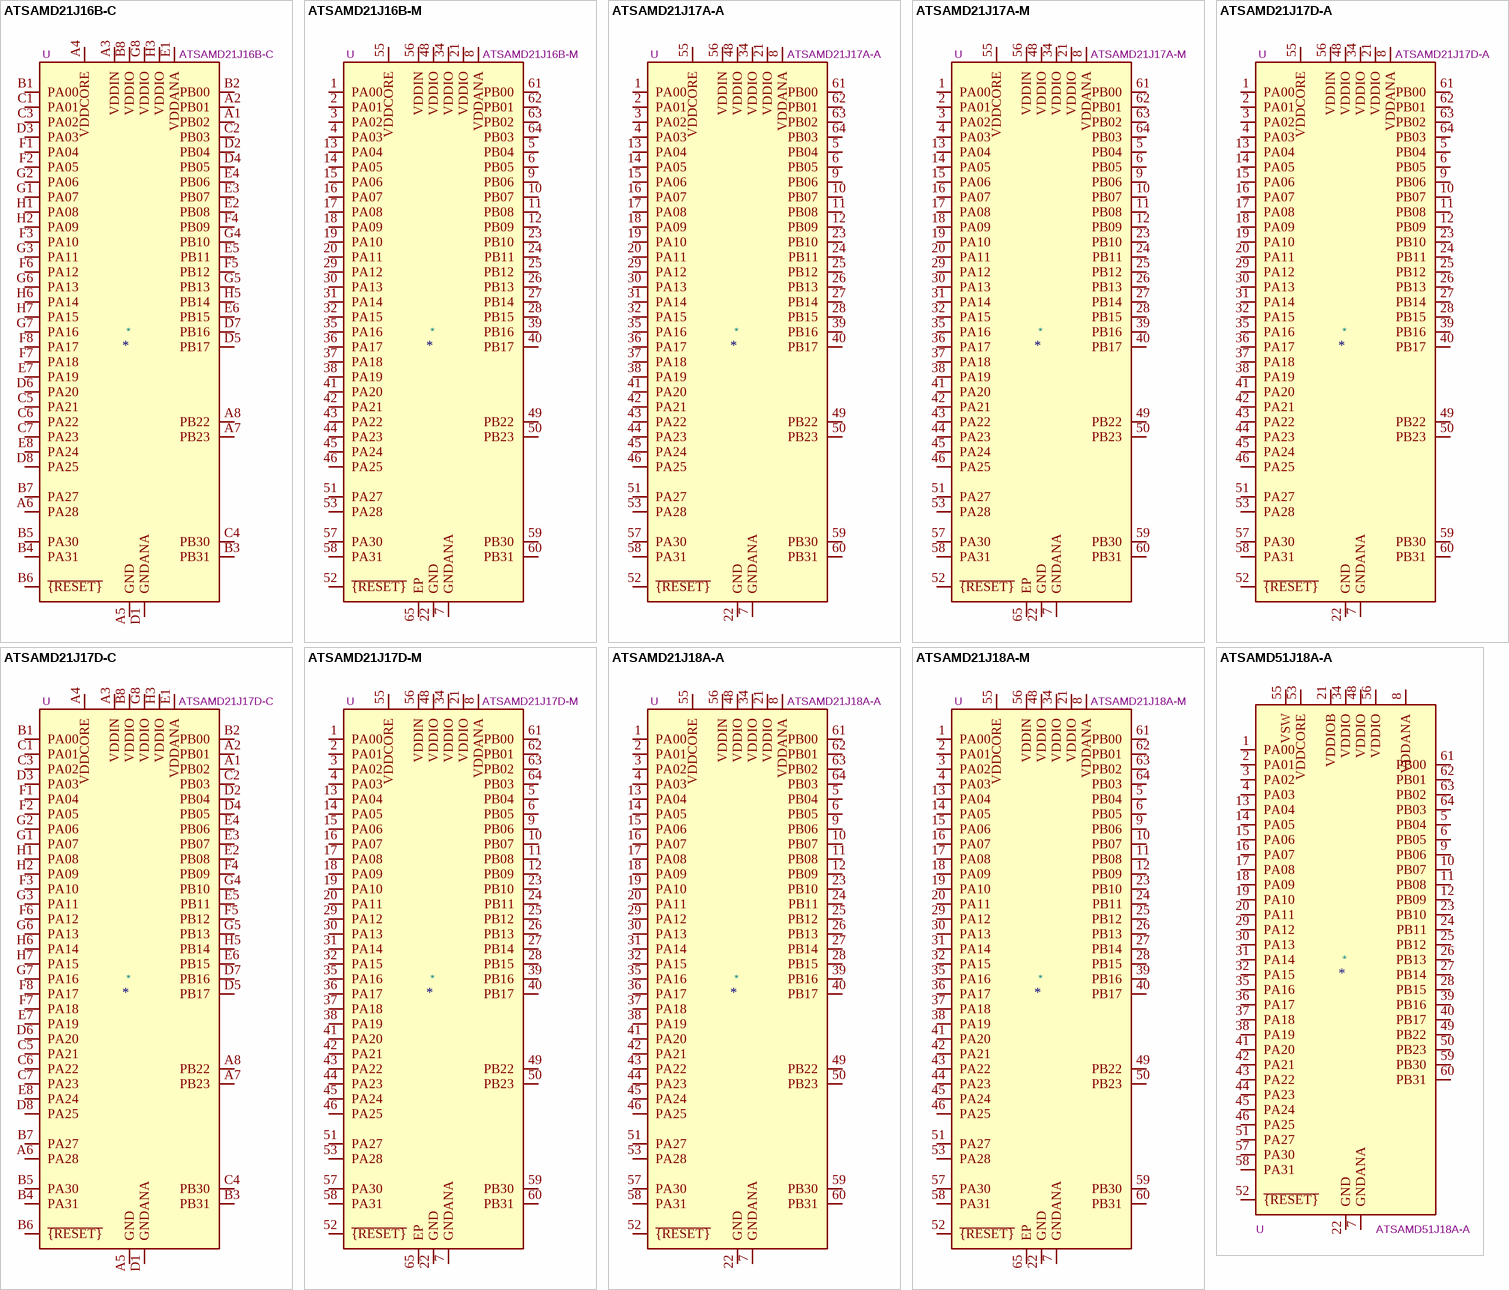
[diagram p5: symbols ATSAMD21J16B-C to ATSAMD51J18A-A]

## ATSAMD21J16B-C
designator *  value ATSAMD21J16B-C  Reference: U
ki_keywords: 32-bit ARM Cortex-M0+ MCU Microcontroller; ki_description: SAM D21 Microchip SMART ARM-based Flash MCU, 48Mhz, 64K Flash w/ 2K RWW, 8K SRAM, UFBGA-64; ki_fp_filters: UFBGA*5x5mm*Layout8x8*P0.5mm*; Footprint: Package_BGA:UFBGA-64_5x5mm_Layout8x8_P0.5mm; Datasheet: http://ww1.microchip.com/downloads/en/DeviceDoc/SAM_D21_DA1_Family_Data%20Sheet_DS40001882E.pdf
pins: A1 PB02, A2 PB01, A3 VDDIN, A4 VDDCORE, A5 GND, A6 PA28, A7 PB23, A8 PB22, B1 PA00, B2 PB00, B3 PB31, B4 PA31, B5 PA30, B6 ~{{RESET}}, B7 PA27, B8 VDDIO, C1 PA01, C2 PB03, C3 PA02, C4 PB30, C5 PA21, C6 PA22, C7 PA23, C8 GND hidden, D1 GNDANA, D2 PB04, D3 PA03, D4 PB05, D5 PB17, D6 PA20, D7 PB16, D8 PA25, E1 VDDANA, E2 PB08, E3 PB07, E4 PB06, E5 PB11, E6 PB15, E7 PA19, E8 PA24, F1 PA04, F2 PA05, F3 PA10, F4 PB09, F5 PB12, F6 PA12, F7 PA18, F8 PA17, G1 PA07, G2 PA06, G3 PA11, G4 PB10, G5 PB13, G6 PA13, G7 PA16, G8 VDDIO, H1 PA08, H2 PA09, H3 VDDIO, H4 GND hidden, H5 PB14, H6 PA14, H7 PA15, H8 GND hidden

## ATSAMD21J16B-M
designator *  value ATSAMD21J16B-M  Reference: U
ki_keywords: 32-bit ARM Cortex-M0+ MCU Microcontroller; ki_description: SAM D21 Microchip SMART ARM-based Flash MCU, 48Mhz, 64K Flash w/ 2K RWW, 8K SRAM, QFN-64; ki_fp_filters: QFN*9x9mm*P0.5mm*; Footprint: Package_DFN_QFN:QFN-64-1EP_9x9mm_P0.5mm_EP4.7x4.7mm; Datasheet: http://ww1.microchip.com/downloads/en/DeviceDoc/SAM_D21_DA1_Family_Data%20Sheet_DS40001882E.pdf
pins: 1 PA00, 2 PA01, 3 PA02, 4 PA03, 5 PB04, 6 PB05, 7 GNDANA, 8 VDDANA, 9 PB06, 10 PB07, 11 PB08, 12 PB09, 13 PA04, 14 PA05, 15 PA06, 16 PA07, 17 PA08, 18 PA09, 19 PA10, 20 PA11, 21 VDDIO, 22 GND, 23 PB10, 24 PB11, 25 PB12, 26 PB13, 27 PB14, 28 PB15, 29 PA12, 30 PA13, 31 PA14, 32 PA15, 33 GND hidden, 34 VDDIO, 35 PA16, 36 PA17, 37 PA18, 38 PA19, 39 PB16, 40 PB17, 41 PA20, 42 PA21, 43 PA22, 44 PA23, 45 PA24, 46 PA25, 47 GND hidden, 48 VDDIO, 49 PB22, 50 PB23, 51 PA27, 52 ~{{RESET}}, 53 PA28, 54 GND hidden, 55 VDDCORE, 56 VDDIN, 57 PA30, 58 PA31, 59 PB30, 60 PB31, 61 PB00, 62 PB01, 63 PB02, 64 PB03, 65 EP

## ATSAMD21J17A-A
designator *  value ATSAMD21J17A-A  Reference: U
ki_keywords: 32-bit ARM Cortex-M0+ MCU Microcontroller; ki_description: SAM D21 Microchip SMART ARM-based Flash MCU, 48Mhz, 128K Flash, 16K SRAM, TQFP-64; ki_fp_filters: TQFP*10x10mm*P0.5mm*; Footprint: Package_QFP:TQFP-64_10x10mm_P0.5mm; Datasheet: http://ww1.microchip.com/downloads/en/DeviceDoc/SAM_D21_DA1_Family_Data%20Sheet_DS40001882E.pdf
pins: 1 PA00, 2 PA01, 3 PA02, 4 PA03, 5 PB04, 6 PB05, 7 GNDANA, 8 VDDANA, 9 PB06, 10 PB07, 11 PB08, 12 PB09, 13 PA04, 14 PA05, 15 PA06, 16 PA07, 17 PA08, 18 PA09, 19 PA10, 20 PA11, 21 VDDIO, 22 GND, 23 PB10, 24 PB11, 25 PB12, 26 PB13, 27 PB14, 28 PB15, 29 PA12, 30 PA13, 31 PA14, 32 PA15, 33 GND hidden, 34 VDDIO, 35 PA16, 36 PA17, 37 PA18, 38 PA19, 39 PB16, 40 PB17, 41 PA20, 42 PA21, 43 PA22, 44 PA23, 45 PA24, 46 PA25, 47 GND hidden, 48 VDDIO, 49 PB22, 50 PB23, 51 PA27, 52 ~{{RESET}}, 53 PA28, 54 GND hidden, 55 VDDCORE, 56 VDDIN, 57 PA30, 58 PA31, 59 PB30, 60 PB31, 61 PB00, 62 PB01, 63 PB02, 64 PB03

## ATSAMD21J17A-M
designator *  value ATSAMD21J17A-M  Reference: U
ki_keywords: 32-bit ARM Cortex-M0+ MCU Microcontroller; ki_description: SAM D21 Microchip SMART ARM-based Flash MCU, 48Mhz, 128K Flash, 16K SRAM, QFN-64; ki_fp_filters: QFN*9x9mm*P0.5mm*; Footprint: Package_DFN_QFN:QFN-64-1EP_9x9mm_P0.5mm_EP4.7x4.7mm; Datasheet: http://ww1.microchip.com/downloads/en/DeviceDoc/SAM_D21_DA1_Family_Data%20Sheet_DS40001882E.pdf
pins: 1 PA00, 2 PA01, 3 PA02, 4 PA03, 5 PB04, 6 PB05, 7 GNDANA, 8 VDDANA, 9 PB06, 10 PB07, 11 PB08, 12 PB09, 13 PA04, 14 PA05, 15 PA06, 16 PA07, 17 PA08, 18 PA09, 19 PA10, 20 PA11, 21 VDDIO, 22 GND, 23 PB10, 24 PB11, 25 PB12, 26 PB13, 27 PB14, 28 PB15, 29 PA12, 30 PA13, 31 PA14, 32 PA15, 33 GND hidden, 34 VDDIO, 35 PA16, 36 PA17, 37 PA18, 38 PA19, 39 PB16, 40 PB17, 41 PA20, 42 PA21, 43 PA22, 44 PA23, 45 PA24, 46 PA25, 47 GND hidden, 48 VDDIO, 49 PB22, 50 PB23, 51 PA27, 52 ~{{RESET}}, 53 PA28, 54 GND hidden, 55 VDDCORE, 56 VDDIN, 57 PA30, 58 PA31, 59 PB30, 60 PB31, 61 PB00, 62 PB01, 63 PB02, 64 PB03, 65 EP